# Altium integrated library Actel ProASIC PLUS.IntLib: 242 symbols (part 15 of 36)
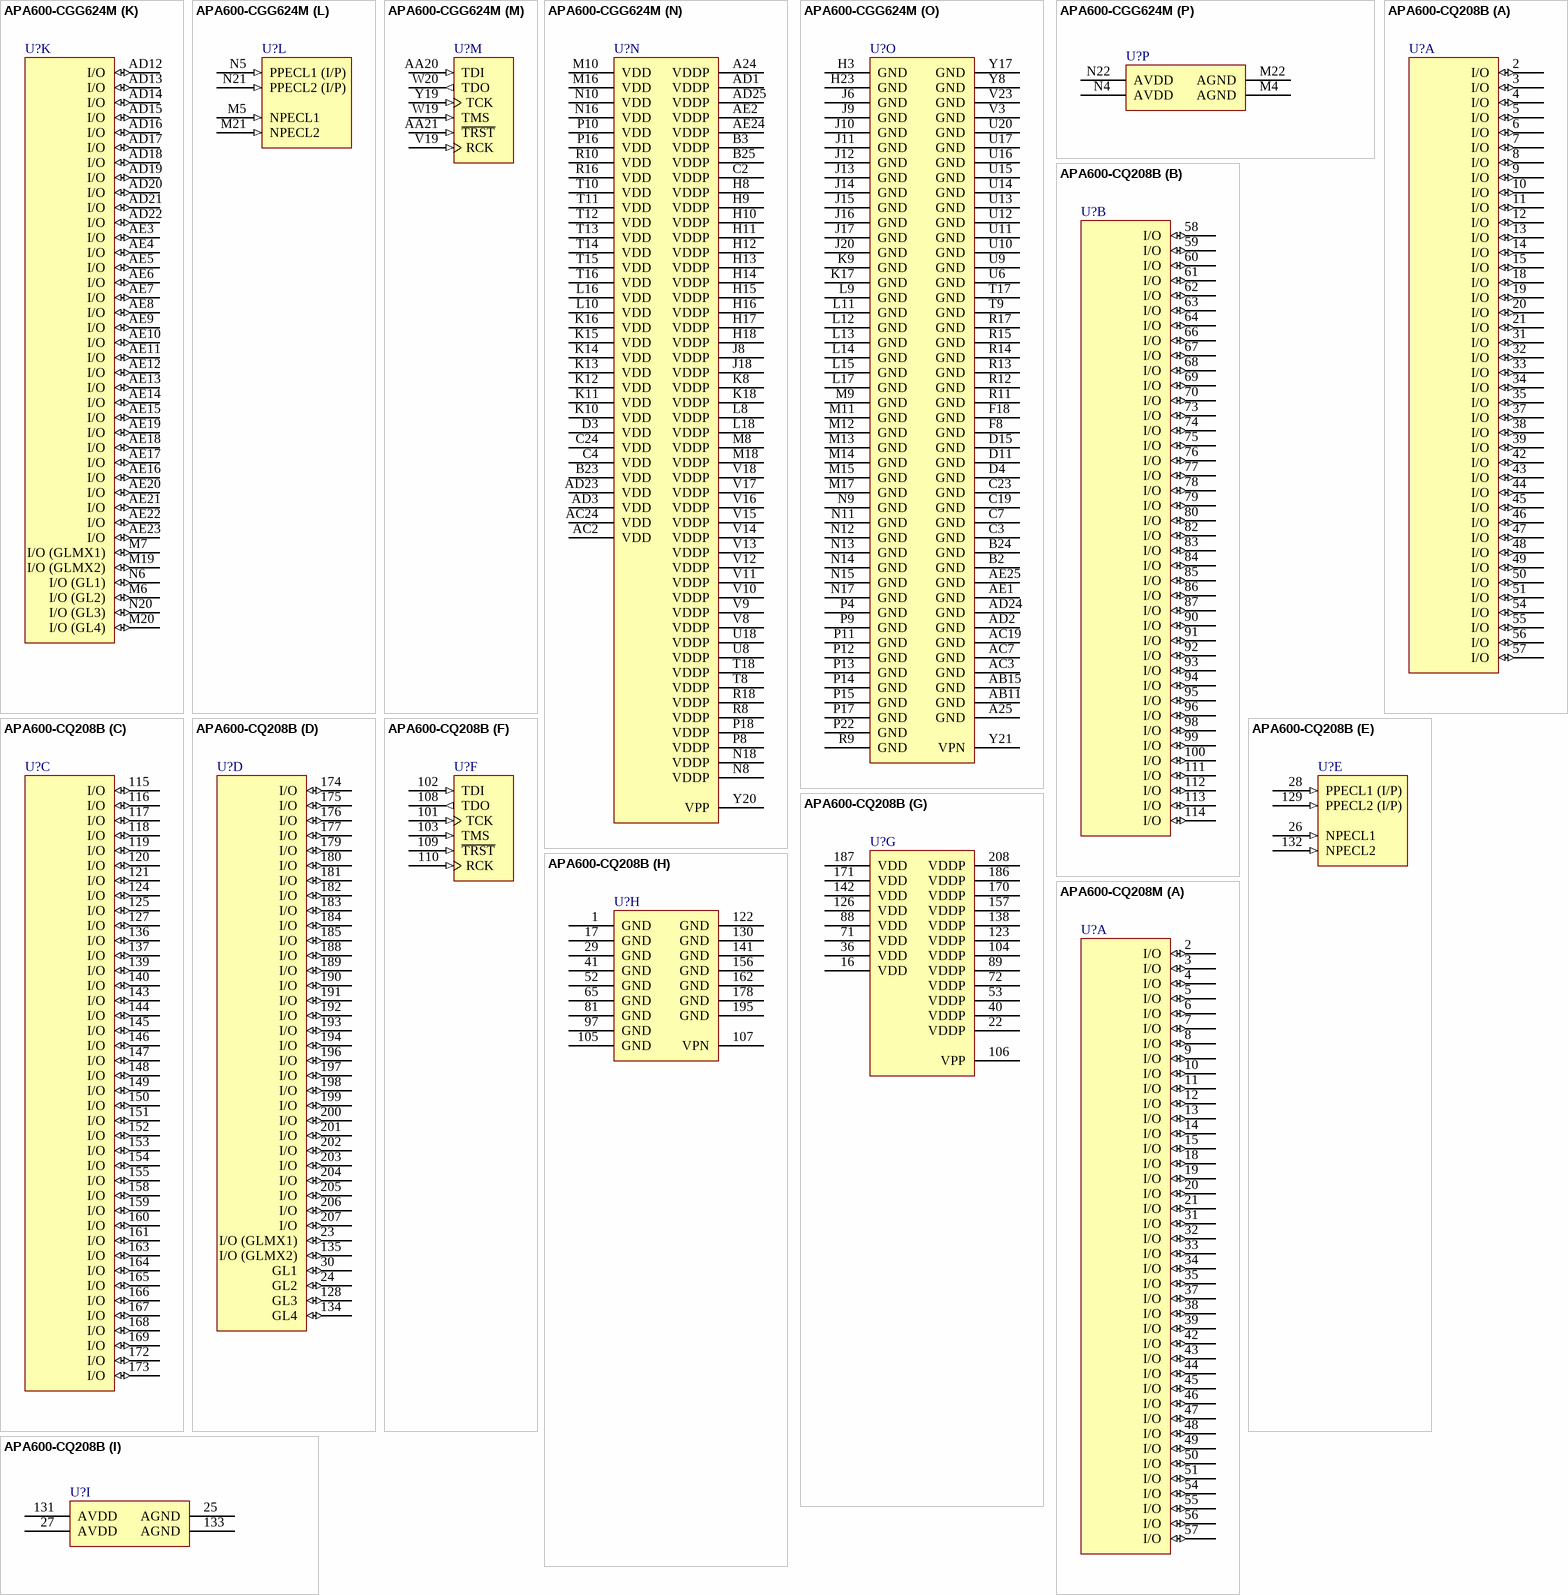
[diagram p211: symbols APA600-CGG624M to APA600-CQ208M]

## APA600-CGG624M
designator U?
ProASICPlus APA600 Flash FPGA, 440 User IOs, 624-Pin CCGA, Speed Grade Standard, Military Grade, Pb-Free; Published: 16-Dec-2005; LatestRevisionDate: 26-Feb-2010; LatestRevisionNote: Updated to datasheet version 5.9 Jan-2010.; DatasheetVersion: v5.9, Jan-2010; PackageVersion: ver11.2, Nov-2009; PackageReference: CG624; Publisher: Altium Limited; PackageDescription: 624-Pin Ceramic Column Grid Array 1.27 mm Pitch; Code_JEDEC: MO-158-BE-01; ComponentLink1Description: ProASIC PLUS Datasheet; ComponentLink1URL: http://www.actel.com/documents/ProASICPLUS_DS.pdf; ComponentLink2Description: Package Mechanical Drawings; ComponentLink2URL: http://www.actel.com/documents/PckgMechDrwngs.pdf; ComponentLink3Description: ProASIC PLUS Documents; ComponentLink3URL: http://www.actel.com/products/proasicplus/docs.aspx; ComponentLink4Description: Actel.com Home; ComponentLink4URL: http://www.actel.com/
footprint CG624 (CGA, 624-Leads, Body 32.5x32.5mm, Pitch 1.27mm)
part A pins: A2 I/O (io), A3 I/O (io), A4 I/O (io), A5 I/O (io), A6 I/O (io), A7 I/O (io), A8 I/O (io), A9 I/O (io), A10 I/O (io), A11 I/O (io), A12 I/O (io), A13 I/O (io), A14 I/O (io), A15 I/O (io), A16 I/O (io), A17 I/O (io), A18 I/O (io), A19 I/O (io), A20 I/O (io), A21 I/O (io), A22 I/O (io), A23 I/O (io), B1 I/O (io), B4 I/O (io), B5 I/O (io), B6 I/O (io), B7 I/O (io), B8 I/O (io), B9 I/O (io), B10 I/O (io), B11 I/O (io), B12 I/O (io), B13 I/O (io), B14 I/O (io), B15 I/O (io), B16 I/O (io), B17 I/O (io), B18 I/O (io), B19 I/O (io), B20 I/O (io)
part B pins: B21 I/O (io), B22 I/O (io), C1 I/O (io), C5 I/O (io), C6 I/O (io), C8 I/O (io), C9 I/O (io), C10 I/O (io), C11 I/O (io), C12 I/O (io), C13 I/O (io), C14 I/O (io), C15 I/O (io), C16 I/O (io), C17 I/O (io), C18 I/O (io), C20 I/O (io), C21 I/O (io), C22 I/O (io), C25 I/O (io), D1 I/O (io), D2 I/O (io), D5 I/O (io), D6 I/O (io), D7 I/O (io), D8 I/O (io), D9 I/O (io), D10 I/O (io), D12 I/O (io), D13 I/O (io), D14 I/O (io), D16 I/O (io), D17 I/O (io), D18 I/O (io), D19 I/O (io), D20 I/O (io), D21 I/O (io), D22 I/O (io), D23 I/O (io), D24 I/O (io)
part C pins: D25 I/O (io), E1 I/O (io), E2 I/O (io), E3 I/O (io), E4 I/O (io), E5 I/O (io), E6 I/O (io), E7 I/O (io), E8 I/O (io), E9 I/O (io), E10 I/O (io), E11 I/O (io), E12 I/O (io), E13 I/O (io), E14 I/O (io), E15 I/O (io), E16 I/O (io), E17 I/O (io), E18 I/O (io), E19 I/O (io), E20 I/O (io), E21 I/O (io), E22 I/O (io), E23 I/O (io), E24 I/O (io), E25 I/O (io), F1 I/O (io), F2 I/O (io), F3 I/O (io), F4 I/O (io), F5 I/O (io), F6 I/O (io), F7 I/O (io), F9 I/O (io), F10 I/O (io), F11 I/O (io), F12 I/O (io), F13 I/O (io), F14 I/O (io), F15 I/O (io)
part D pins: F16 I/O (io), F17 I/O (io), F19 I/O (io), F20 I/O (io), F21 I/O (io), F22 I/O (io), F23 I/O (io), F24 I/O (io), F25 I/O (io), G1 I/O (io), G2 I/O (io), G3 I/O (io), G4 I/O (io), G5 I/O (io), G6 I/O (io), G7 I/O (io), G8 I/O (io), G9 I/O (io), G10 I/O (io), G11 I/O (io), G12 I/O (io), G13 I/O (io), G14 I/O (io), G15 I/O (io), G16 I/O (io), G17 I/O (io), G18 I/O (io), G19 I/O (io), G20 I/O (io), G21 I/O (io), G22 I/O (io), G23 I/O (io), G24 I/O (io), G25 I/O (io), H1 I/O (io), H2 I/O (io), H4 I/O (io), H5 I/O (io), H6 I/O (io), H7 I/O (io)
part E pins: H19 I/O (io), H20 I/O (io), H21 I/O (io), H22 I/O (io), H24 I/O (io), H25 I/O (io), J1 I/O (io), J2 I/O (io), J3 I/O (io), J4 I/O (io), J5 I/O (io), J7 I/O (io), J19 I/O (io), J21 I/O (io), J22 I/O (io), J23 I/O (io), J24 I/O (io), J25 I/O (io), K1 I/O (io), K2 I/O (io), K3 I/O (io), K4 I/O (io), K5 I/O (io), K6 I/O (io), K7 I/O (io), K19 I/O (io), K20 I/O (io), K21 I/O (io), K22 I/O (io), K23 I/O (io), K24 I/O (io), K25 I/O (io), L1 I/O (io), L2 I/O (io), L3 I/O (io), L4 I/O (io), L5 I/O (io), L6 I/O (io), L7 I/O (io), L19 I/O (io)
part F pins: L20 I/O (io), L21 I/O (io), L22 I/O (io), L23 I/O (io), L24 I/O (io), L25 I/O (io), M1 I/O (io), M2 I/O (io), M3 I/O (io), M23 I/O (io), M24 I/O (io), M25 I/O (io), N1 I/O (io), N2 I/O (io), N3 I/O (io), N7 I/O (io), N19 I/O (io), N23 I/O (io), N24 I/O (io), N25 I/O (io), P1 I/O (io), P2 I/O (io), P3 I/O (io), P5 I/O (io), P6 I/O (io), P7 I/O (io), P19 I/O (io), P20 I/O (io), P21 I/O (io), P23 I/O (io), P24 I/O (io), P25 I/O (io), R1 I/O (io), R2 I/O (io), R3 I/O (io), R4 I/O (io), R5 I/O (io), R6 I/O (io), R7 I/O (io), R19 I/O (io)
part G pins: R20 I/O (io), R21 I/O (io), R22 I/O (io), R23 I/O (io), R24 I/O (io), R25 I/O (io), T1 I/O (io), T2 I/O (io), T3 I/O (io), T4 I/O (io), T5 I/O (io), T6 I/O (io), T7 I/O (io), T19 I/O (io), T20 I/O (io), T21 I/O (io), T22 I/O (io), T23 I/O (io), T24 I/O (io), T25 I/O (io), U1 I/O (io), U2 I/O (io), U3 I/O (io), U4 I/O (io), U5 I/O (io), U7 I/O (io), U19 I/O (io), U21 I/O (io), U22 I/O (io), U23 I/O (io), U24 I/O (io), U25 I/O (io), V1 I/O (io), V2 I/O (io), V4 I/O (io), V5 I/O (io), V6 I/O (io), V7 I/O (io), V20 I/O (io), V21 I/O (io)
part H pins: V22 I/O (io), V24 I/O (io), V25 I/O (io), W1 I/O (io), W2 I/O (io), W3 I/O (io), W4 I/O (io), W5 I/O (io), W6 I/O (io), W7 I/O (io), W8 I/O (io), W9 I/O (io), W10 I/O (io), W11 I/O (io), W12 I/O (io), W13 I/O (io), W14 I/O (io), W15 I/O (io), W16 I/O (io), W17 I/O (io), W18 I/O (io), W21 I/O (io), W22 I/O (io), W23 I/O (io), W24 I/O (io), W25 I/O (io), Y1 I/O (io), Y2 I/O (io), Y3 I/O (io), Y4 I/O (io), Y5 I/O (io), Y6 I/O (io), Y7 I/O (io), Y9 I/O (io), Y10 I/O (io), Y11 I/O (io), Y12 I/O (io), Y13 I/O (io), Y14 I/O (io), Y15 I/O (io)
part I pins: AA1 I/O (io), AA2 I/O (io), AA3 I/O (io), AA4 I/O (io), AA5 I/O (io), AA6 I/O (io), AA7 I/O (io), AA8 I/O (io), AA9 I/O (io), AA10 I/O (io), AA11 I/O (io), AA12 I/O (io), AA13 I/O (io), AA14 I/O (io), AA15 I/O (io), AA16 I/O (io), AA17 I/O (io), AA18 I/O (io), AA19 I/O (io), AA22 I/O (io), AA23 I/O (io), AA24 I/O (io), AA25 I/O (io), AB1 I/O (io), AB2 I/O (io), AB3 I/O (io), AB4 I/O (io), AB5 I/O (io), AB6 I/O (io), AB7 I/O (io), AB8 I/O (io), AB9 I/O (io), AB10 I/O (io), AB12 I/O (io), Y16 I/O (io), Y18 I/O (io), Y22 I/O (io), Y23 I/O (io), Y24 I/O (io), Y25 I/O (io)
part J pins: AB13 I/O (io), AB14 I/O (io), AB16 I/O (io), AB17 I/O (io), AB18 I/O (io), AB19 I/O (io), AB20 I/O (io), AB21 I/O (io), AB22 I/O (io), AB23 I/O (io), AB24 I/O (io), AB25 I/O (io), AC1 I/O (io), AC4 I/O (io), AC5 I/O (io), AC6 I/O (io), AC8 I/O (io), AC9 I/O (io), AC10 I/O (io), AC11 I/O (io), AC12 I/O (io), AC13 I/O (io), AC14 I/O (io), AC15 I/O (io), AC16 I/O (io), AC17 I/O (io), AC18 I/O (io), AC20 I/O (io), AC21 I/O (io), AC22 I/O (io), AC23 I/O (io), AC25 I/O (io), AD4 I/O (io), AD5 I/O (io), AD6 I/O (io), AD7 I/O (io), AD8 I/O (io), AD9 I/O (io), AD10 I/O (io), AD11 I/O (io)
part K pins: AD12 I/O (io), AD13 I/O (io), AD14 I/O (io), AD15 I/O (io), AD16 I/O (io), AD17 I/O (io), AD18 I/O (io), AD19 I/O (io), AD20 I/O (io), AD21 I/O (io), AD22 I/O (io), AE3 I/O (io), AE4 I/O (io), AE5 I/O (io), AE6 I/O (io), AE7 I/O (io), AE8 I/O (io), AE9 I/O (io), AE10 I/O (io), AE11 I/O (io), AE12 I/O (io), AE13 I/O (io), AE14 I/O (io), AE15 I/O (io), AE16 I/O (io), AE17 I/O (io), AE18 I/O (io), AE19 I/O (io), AE20 I/O (io), AE21 I/O (io), AE22 I/O (io), AE23 I/O (io), M6 I/O (GL2) (io), M7 I/O (GLMX1) (io), M19 I/O (GLMX2) (io), M20 I/O (GL4) (io), N6 I/O (GL1) (io), N20 I/O (GL3) (io)
part L pins: M5 NPECL1 (in), M21 NPECL2 (in), N5 PPECL1 (I/P) (in), N21 PPECL2 (I/P) (in)
part M pins: AA20 TDI (in), AA21 ~{TRST} (in), V19 RCK (in), W19 TMS (in), W20 TDO (out), Y19 TCK (in)
part N pins: A24 VDDP (power), AC2 VDD (power), AC24 VDD (power), AD1 VDDP (power), AD3 VDD (power), AD23 VDD (power), AD25 VDDP (power), AE2 VDDP (power), AE24 VDDP (power), B3 VDDP (power), B23 VDD (power), B25 VDDP (power), C2 VDDP (power), C4 VDD (power), C24 VDD (power), D3 VDD (power), H8 VDDP (power), H9 VDDP (power), H10 VDDP (power), H11 VDDP (power), H12 VDDP (power), H13 VDDP (power), H14 VDDP (power), H15 VDDP (power), H16 VDDP (power), H17 VDDP (power), H18 VDDP (power), J8 VDDP (power), J18 VDDP (power), K8 VDDP (power), K10 VDD (power), K11 VDD (power), K12 VDD (power), K13 VDD (power), K14 VDD (power), K15 VDD (power), K16 VDD (power), K18 VDDP (power), L8 VDDP (power), L10 VDD (power), L16 VDD (power), L18 VDDP (power), M8 VDDP (power), M10 VDD (power), M16 VDD (power), M18 VDDP (power), N8 VDDP (power), N10 VDD (power), N16 VDD (power), N18 VDDP (power), P8 VDDP (power), P10 VDD (power), P16 VDD (power), P18 VDDP (power), R8 VDDP (power), R10 VDD (power), R16 VDD (power), R18 VDDP (power), T8 VDDP (power), T10 VDD (power), T11 VDD (power), T12 VDD (power), T13 VDD (power), T14 VDD (power), T15 VDD (power), T16 VDD (power), T18 VDDP (power), U8 VDDP (power), U18 VDDP (power), V8 VDDP (power), V9 VDDP (power), V10 VDDP (power), V11 VDDP (power), V12 VDDP (power), V13 VDDP (power), V14 VDDP (power), V15 VDDP (power), V16 VDDP (power), V17 VDDP (power), V18 VDDP (power), Y20 VPP (power)
part O pins: A25 GND (power), AB11 GND (power), AB15 GND (power), AC3 GND (power), AC7 GND (power), AC19 GND (power), AD2 GND (power), AD24 GND (power), AE1 GND (power), AE25 GND (power), B2 GND (power), B24 GND (power), C3 GND (power), C7 GND (power), C19 GND (power), C23 GND (power), D4 GND (power), D11 GND (power), D15 GND (power), F8 GND (power), F18 GND (power), H3 GND (power), H23 GND (power), J6 GND (power), J9 GND (power), J10 GND (power), J11 GND (power), J12 GND (power), J13 GND (power), J14 GND (power), J15 GND (power), J16 GND (power), J17 GND (power), J20 GND (power), K9 GND (power), K17 GND (power), L9 GND (power), L11 GND (power), L12 GND (power), L13 GND (power), L14 GND (power), L15 GND (power), L17 GND (power), M9 GND (power), M11 GND (power), M12 GND (power), M13 GND (power), M14 GND (power), M15 GND (power), M17 GND (power), N9 GND (power), N11 GND (power), N12 GND (power), N13 GND (power), N14 GND (power), N15 GND (power), N17 GND (power), P4 GND (power), P9 GND (power), P11 GND (power), P12 GND (power), P13 GND (power), P14 GND (power), P15 GND (power), P17 GND (power), P22 GND (power), R9 GND (power), R11 GND (power), R12 GND (power), R13 GND (power), R14 GND (power), R15 GND (power), R17 GND (power), T9 GND (power), T17 GND (power), U6 GND (power), U9 GND (power), U10 GND (power), U11 GND (power), U12 GND (power), U13 GND (power), U14 GND (power), U15 GND (power), U16 GND (power), U17 GND (power), U20 GND (power), V3 GND (power), V23 GND (power), Y8 GND (power), Y17 GND (power), Y21 VPN (power)
part P pins: M4 AGND (power), M22 AGND (power), N4 AVDD (power), N22 AVDD (power)

## APA600-CQ208B
designator U?
ProASICPlus APA600 Flash FPGA, 158 User IOs, 208-Pin CQFP, Speed Grade Standard, Mil-Std 883 Class B; Published: 2-Mar-2006; LatestRevisionDate: 26-Feb-2010; LatestRevisionNote: Updated to datasheet version 5.9 Jan-2010.; DatasheetVersion: v5.9, Jan-2010; PackageVersion: ver11.2, Nov-2009; PackageReference: CQ208; Publisher: Altium Limited; PackageDescription: 208-Pin Ceramic Quad Flat Pack (CQFP); ComponentLink1Description: ProASIC PLUS Datasheet; ComponentLink1URL: http://www.actel.com/documents/ProASICPLUS_DS.pdf; ComponentLink2Description: Package Mechanical Drawings; ComponentLink2URL: http://www.actel.com/documents/PckgMechDrwngs.pdf; ComponentLink3Description: ProASIC PLUS Documents; ComponentLink3URL: http://www.actel.com/products/proasicplus/docs.aspx; ComponentLink4Description: Actel.com Home; ComponentLink4URL: http://www.actel.com/
footprint CQ208_N (CQFP, 208-Leads, Body 29x29mm; Pitch 0.5mm, Gullwing Leadform, IPC Medium Density)
footprint CQ208_L (CQFP, 208-Leads, Body 29x29mm; Pitch 0.5mm, Gullwing Leadform, IPC High Density)
footprint CQ208_M (CQFP, 208-Leads, Body 29x29mm; Pitch 0.5mm, Gullwing Leadform, IPC Low Density)
part A pins: 2 I/O (io), 3 I/O (io), 4 I/O (io), 5 I/O (io), 6 I/O (io), 7 I/O (io), 8 I/O (io), 9 I/O (io), 10 I/O (io), 11 I/O (io), 12 I/O (io), 13 I/O (io), 14 I/O (io), 15 I/O (io), 18 I/O (io), 19 I/O (io), 20 I/O (io), 21 I/O (io), 31 I/O (io), 32 I/O (io), 33 I/O (io), 34 I/O (io), 35 I/O (io), 37 I/O (io), 38 I/O (io), 39 I/O (io), 42 I/O (io), 43 I/O (io), 44 I/O (io), 45 I/O (io), 46 I/O (io), 47 I/O (io), 48 I/O (io), 49 I/O (io), 50 I/O (io), 51 I/O (io), 54 I/O (io), 55 I/O (io), 56 I/O (io), 57 I/O (io)
part B pins: 58 I/O (io), 59 I/O (io), 60 I/O (io), 61 I/O (io), 62 I/O (io), 63 I/O (io), 64 I/O (io), 66 I/O (io), 67 I/O (io), 68 I/O (io), 69 I/O (io), 70 I/O (io), 73 I/O (io), 74 I/O (io), 75 I/O (io), 76 I/O (io), 77 I/O (io), 78 I/O (io), 79 I/O (io), 80 I/O (io), 82 I/O (io), 83 I/O (io), 84 I/O (io), 85 I/O (io), 86 I/O (io), 87 I/O (io), 90 I/O (io), 91 I/O (io), 92 I/O (io), 93 I/O (io), 94 I/O (io), 95 I/O (io), 96 I/O (io), 98 I/O (io), 99 I/O (io), 100 I/O (io), 111 I/O (io), 112 I/O (io), 113 I/O (io), 114 I/O (io)
part C pins: 115 I/O (io), 116 I/O (io), 117 I/O (io), 118 I/O (io), 119 I/O (io), 120 I/O (io), 121 I/O (io), 124 I/O (io), 125 I/O (io), 127 I/O (io), 136 I/O (io), 137 I/O (io), 139 I/O (io), 140 I/O (io), 143 I/O (io), 144 I/O (io), 145 I/O (io), 146 I/O (io), 147 I/O (io), 148 I/O (io), 149 I/O (io), 150 I/O (io), 151 I/O (io), 152 I/O (io), 153 I/O (io), 154 I/O (io), 155 I/O (io), 158 I/O (io), 159 I/O (io), 160 I/O (io), 161 I/O (io), 163 I/O (io), 164 I/O (io), 165 I/O (io), 166 I/O (io), 167 I/O (io), 168 I/O (io), 169 I/O (io), 172 I/O (io), 173 I/O (io)
part D pins: 23 I/O (GLMX1) (io), 24 GL2 (io), 30 GL1 (io), 128 GL3 (io), 134 GL4 (io), 135 I/O (GLMX2) (io), 174 I/O (io), 175 I/O (io), 176 I/O (io), 177 I/O (io), 179 I/O (io), 180 I/O (io), 181 I/O (io), 182 I/O (io), 183 I/O (io), 184 I/O (io), 185 I/O (io), 188 I/O (io), 189 I/O (io), 190 I/O (io), 191 I/O (io), 192 I/O (io), 193 I/O (io), 194 I/O (io), 196 I/O (io), 197 I/O (io), 198 I/O (io), 199 I/O (io), 200 I/O (io), 201 I/O (io), 202 I/O (io), 203 I/O (io), 204 I/O (io), 205 I/O (io), 206 I/O (io), 207 I/O (io)
part E pins: 26 NPECL1 (in), 28 PPECL1 (I/P) (in), 129 PPECL2 (I/P) (in), 132 NPECL2 (in)
part F pins: 101 TCK (in), 102 TDI (in), 103 TMS (in), 108 TDO (out), 109 ~{TRST} (in), 110 RCK (in)
part G pins: 16 VDD (power), 22 VDDP (power), 36 VDD (power), 40 VDDP (power), 53 VDDP (power), 71 VDD (power), 72 VDDP (power), 88 VDD (power), 89 VDDP (power), 104 VDDP (power), 106 VPP (power), 123 VDDP (power), 126 VDD (power), 138 VDDP (power), 142 VDD (power), 157 VDDP (power), 170 VDDP (power), 171 VDD (power), 186 VDDP (power), 187 VDD (power), 208 VDDP (power)
part H pins: 1 GND (power), 17 GND (power), 29 GND (power), 41 GND (power), 52 GND (power), 65 GND (power), 81 GND (power), 97 GND (power), 105 GND (power), 107 VPN (power), 122 GND (power), 130 GND (power), 141 GND (power), 156 GND (power), 162 GND (power), 178 GND (power), 195 GND (power)
part I pins: 25 AGND (power), 27 AVDD (power), 131 AVDD (power), 133 AGND (power)

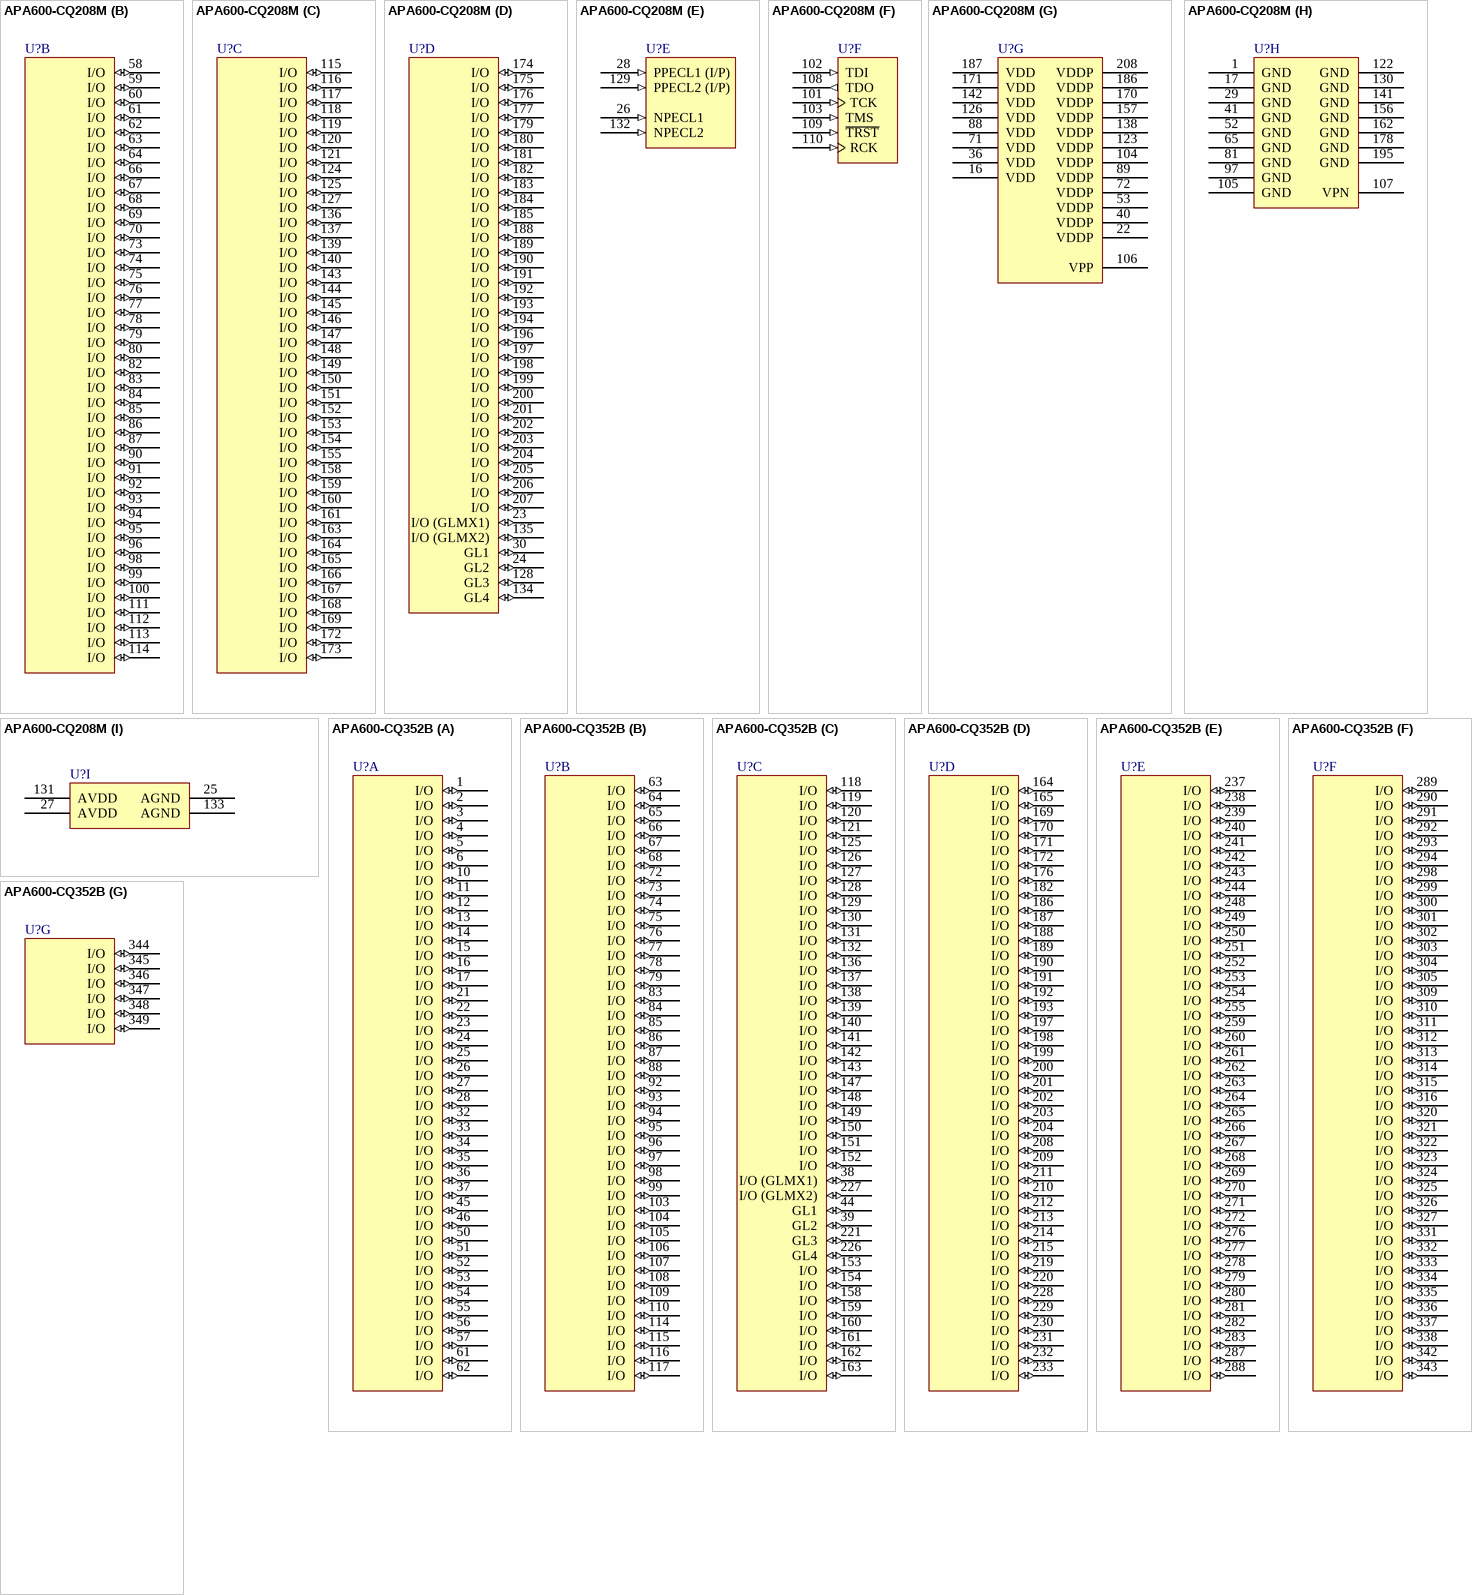
[diagram p89: symbols APA600-CQ208M to APA600-CQ352B]

## APA600-CQ208M
designator U?
ProASICPlus APA600 Flash FPGA, 158 User IOs, 208-Pin CQFP, Speed Grade Standard, Military Grade; Published: 11-Oct-2004; LatestRevisionDate: 26-Feb-2010; LatestRevisionNote: Updated to datasheet version 5.9 Jan-2010.; DatasheetVersion: v5.9, Jan-2010; PackageVersion: ver11.2, Nov-2009; PackageReference: CQ208; Publisher: Altium Limited; PackageDescription: 208-Pin Ceramic Quad Flat Pack (CQFP); ComponentLink1Description: ProASIC PLUS Datasheet; ComponentLink1URL: http://www.actel.com/documents/ProASICPLUS_DS.pdf; ComponentLink2Description: Package Mechanical Drawings; ComponentLink2URL: http://www.actel.com/documents/PckgMechDrwngs.pdf; ComponentLink3Description: ProASIC PLUS Documents; ComponentLink3URL: http://www.actel.com/products/proasicplus/docs.aspx; ComponentLink4Description: Actel.com Home; ComponentLink4URL: http://www.actel.com/
footprint CQ208_N (CQFP, 208-Leads, Body 29x29mm; Pitch 0.5mm, Gullwing Leadform, IPC Medium Density)
footprint CQ208_L (CQFP, 208-Leads, Body 29x29mm; Pitch 0.5mm, Gullwing Leadform, IPC High Density)
footprint CQ208_M (CQFP, 208-Leads, Body 29x29mm; Pitch 0.5mm, Gullwing Leadform, IPC Low Density)
part A pins: 2 I/O (io), 3 I/O (io), 4 I/O (io), 5 I/O (io), 6 I/O (io), 7 I/O (io), 8 I/O (io), 9 I/O (io), 10 I/O (io), 11 I/O (io), 12 I/O (io), 13 I/O (io), 14 I/O (io), 15 I/O (io), 18 I/O (io), 19 I/O (io), 20 I/O (io), 21 I/O (io), 31 I/O (io), 32 I/O (io), 33 I/O (io), 34 I/O (io), 35 I/O (io), 37 I/O (io), 38 I/O (io), 39 I/O (io), 42 I/O (io), 43 I/O (io), 44 I/O (io), 45 I/O (io), 46 I/O (io), 47 I/O (io), 48 I/O (io), 49 I/O (io), 50 I/O (io), 51 I/O (io), 54 I/O (io), 55 I/O (io), 56 I/O (io), 57 I/O (io)
part B pins: 58 I/O (io), 59 I/O (io), 60 I/O (io), 61 I/O (io), 62 I/O (io), 63 I/O (io), 64 I/O (io), 66 I/O (io), 67 I/O (io), 68 I/O (io), 69 I/O (io), 70 I/O (io), 73 I/O (io), 74 I/O (io), 75 I/O (io), 76 I/O (io), 77 I/O (io), 78 I/O (io), 79 I/O (io), 80 I/O (io), 82 I/O (io), 83 I/O (io), 84 I/O (io), 85 I/O (io), 86 I/O (io), 87 I/O (io), 90 I/O (io), 91 I/O (io), 92 I/O (io), 93 I/O (io), 94 I/O (io), 95 I/O (io), 96 I/O (io), 98 I/O (io), 99 I/O (io), 100 I/O (io), 111 I/O (io), 112 I/O (io), 113 I/O (io), 114 I/O (io)
part C pins: 115 I/O (io), 116 I/O (io), 117 I/O (io), 118 I/O (io), 119 I/O (io), 120 I/O (io), 121 I/O (io), 124 I/O (io), 125 I/O (io), 127 I/O (io), 136 I/O (io), 137 I/O (io), 139 I/O (io), 140 I/O (io), 143 I/O (io), 144 I/O (io), 145 I/O (io), 146 I/O (io), 147 I/O (io), 148 I/O (io), 149 I/O (io), 150 I/O (io), 151 I/O (io), 152 I/O (io), 153 I/O (io), 154 I/O (io), 155 I/O (io), 158 I/O (io), 159 I/O (io), 160 I/O (io), 161 I/O (io), 163 I/O (io), 164 I/O (io), 165 I/O (io), 166 I/O (io), 167 I/O (io), 168 I/O (io), 169 I/O (io), 172 I/O (io), 173 I/O (io)
part D pins: 23 I/O (GLMX1) (io), 24 GL2 (io), 30 GL1 (io), 128 GL3 (io), 134 GL4 (io), 135 I/O (GLMX2) (io), 174 I/O (io), 175 I/O (io), 176 I/O (io), 177 I/O (io), 179 I/O (io), 180 I/O (io), 181 I/O (io), 182 I/O (io), 183 I/O (io), 184 I/O (io), 185 I/O (io), 188 I/O (io), 189 I/O (io), 190 I/O (io), 191 I/O (io), 192 I/O (io), 193 I/O (io), 194 I/O (io), 196 I/O (io), 197 I/O (io), 198 I/O (io), 199 I/O (io), 200 I/O (io), 201 I/O (io), 202 I/O (io), 203 I/O (io), 204 I/O (io), 205 I/O (io), 206 I/O (io), 207 I/O (io)
part E pins: 26 NPECL1 (in), 28 PPECL1 (I/P) (in), 129 PPECL2 (I/P) (in), 132 NPECL2 (in)
part F pins: 101 TCK (in), 102 TDI (in), 103 TMS (in), 108 TDO (out), 109 ~{TRST} (in), 110 RCK (in)
part G pins: 16 VDD (power), 22 VDDP (power), 36 VDD (power), 40 VDDP (power), 53 VDDP (power), 71 VDD (power), 72 VDDP (power), 88 VDD (power), 89 VDDP (power), 104 VDDP (power), 106 VPP (power), 123 VDDP (power), 126 VDD (power), 138 VDDP (power), 142 VDD (power), 157 VDDP (power), 170 VDDP (power), 171 VDD (power), 186 VDDP (power), 187 VDD (power), 208 VDDP (power)
part H pins: 1 GND (power), 17 GND (power), 29 GND (power), 41 GND (power), 52 GND (power), 65 GND (power), 81 GND (power), 97 GND (power), 105 GND (power), 107 VPN (power), 122 GND (power), 130 GND (power), 141 GND (power), 156 GND (power), 162 GND (power), 178 GND (power), 195 GND (power)
part I pins: 25 AGND (power), 27 AVDD (power), 131 AVDD (power), 133 AGND (power)

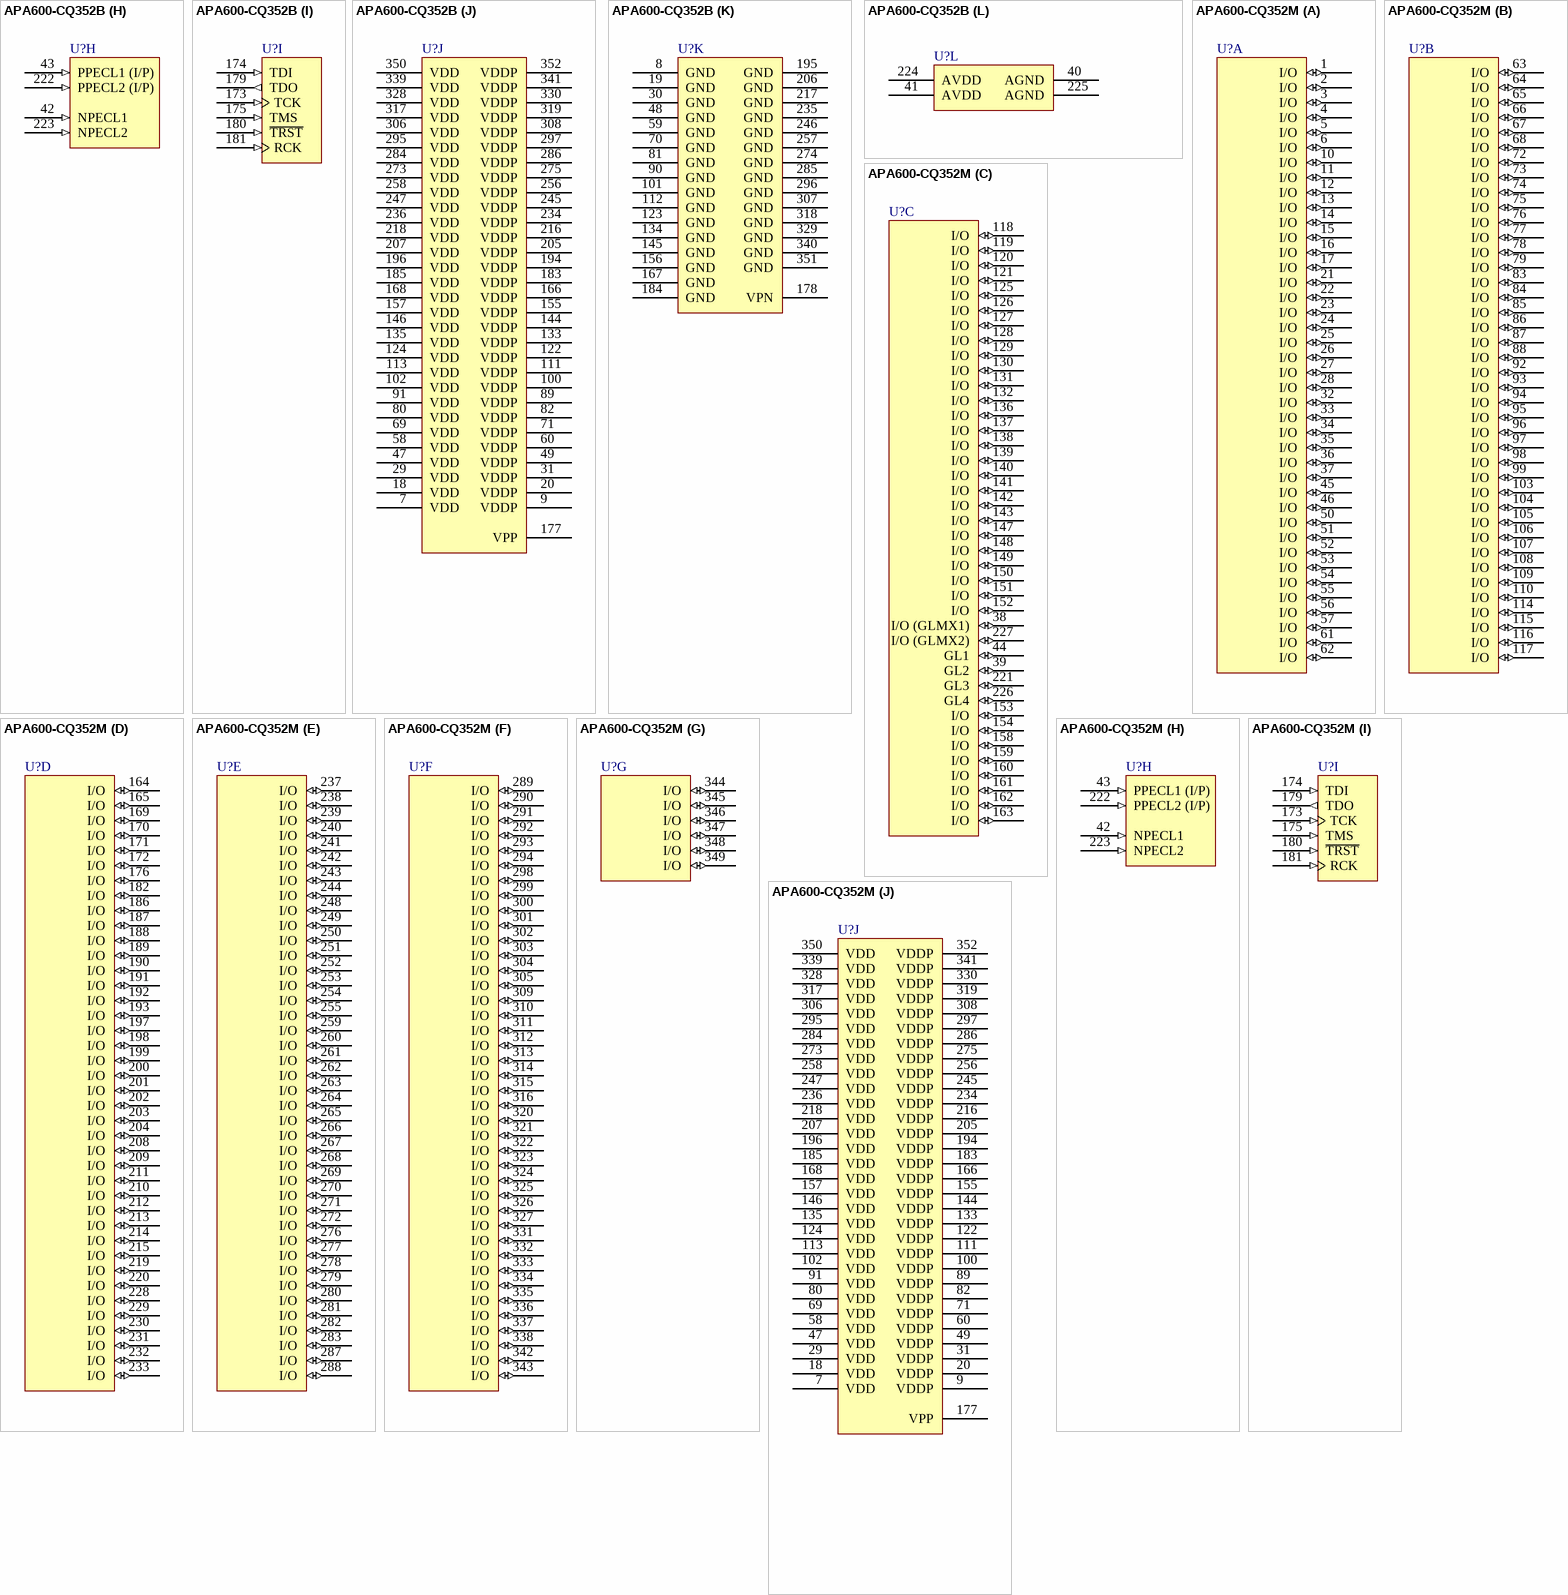
[diagram p90: symbols APA600-CQ352B to APA600-CQ352M]

## APA600-CQ352B
designator U?
ProASICPlus APA600 Flash FPGA, 248 User IOs, 352-Pin CQFP, Speed Grade Standard, Mil-Std 883 Class B; Published: 2-Mar-2006; LatestRevisionDate: 26-Feb-2010; LatestRevisionNote: Updated to datasheet version 5.9 Jan-2010.; DatasheetVersion: v5.9, Jan-2010; PackageVersion: ver11.2, Nov-2009; PackageReference: CQ352; Publisher: Altium Limited; PackageDescription: 352-Pin Ceramic Quad Flat Pack (CQFP), Cavity Up without Heat Sink; Code_JEDEC: MO-134-AE; ComponentLink1Description: ProASIC PLUS Datasheet; ComponentLink1URL: http://www.actel.com/documents/ProASICPLUS_DS.pdf; ComponentLink2Description: Package Mechanical Drawings; ComponentLink2URL: http://www.actel.com/documents/PckgMechDrwngs.pdf; ComponentLink3Description: ProASIC PLUS Documents; ComponentLink3URL: http://www.actel.com/products/proasicplus/docs.aspx; ComponentLink4Description: Actel.com Home; ComponentLink4URL: http://www.actel.com/
footprint CQ352_N (CQFP, 352-Leads, Body 48x48mm; Pitch 0.5mm, Gullwing Leadform, IPC Medium Density)
footprint CQ352_L (CQFP, 352-Leads, Body 48x48mm; Pitch 0.5mm, Gullwing Leadform, IPC High Density)
footprint CQ352_M (CQFP, 352-Leads, Body 48x48mm; Pitch 0.5mm, Gullwing Leadform, IPC Low Density)
part A pins: 1 I/O (io), 2 I/O (io), 3 I/O (io), 4 I/O (io), 5 I/O (io), 6 I/O (io), 10 I/O (io), 11 I/O (io), 12 I/O (io), 13 I/O (io), 14 I/O (io), 15 I/O (io), 16 I/O (io), 17 I/O (io), 21 I/O (io), 22 I/O (io), 23 I/O (io), 24 I/O (io), 25 I/O (io), 26 I/O (io), 27 I/O (io), 28 I/O (io), 32 I/O (io), 33 I/O (io), 34 I/O (io), 35 I/O (io), 36 I/O (io), 37 I/O (io), 45 I/O (io), 46 I/O (io), 50 I/O (io), 51 I/O (io), 52 I/O (io), 53 I/O (io), 54 I/O (io), 55 I/O (io), 56 I/O (io), 57 I/O (io), 61 I/O (io), 62 I/O (io)
part B pins: 63 I/O (io), 64 I/O (io), 65 I/O (io), 66 I/O (io), 67 I/O (io), 68 I/O (io), 72 I/O (io), 73 I/O (io), 74 I/O (io), 75 I/O (io), 76 I/O (io), 77 I/O (io), 78 I/O (io), 79 I/O (io), 83 I/O (io), 84 I/O (io), 85 I/O (io), 86 I/O (io), 87 I/O (io), 88 I/O (io), 92 I/O (io), 93 I/O (io), 94 I/O (io), 95 I/O (io), 96 I/O (io), 97 I/O (io), 98 I/O (io), 99 I/O (io), 103 I/O (io), 104 I/O (io), 105 I/O (io), 106 I/O (io), 107 I/O (io), 108 I/O (io), 109 I/O (io), 110 I/O (io), 114 I/O (io), 115 I/O (io), 116 I/O (io), 117 I/O (io)
part C pins: 38 I/O (GLMX1) (io), 39 GL2 (io), 44 GL1 (io), 118 I/O (io), 119 I/O (io), 120 I/O (io), 121 I/O (io), 125 I/O (io), 126 I/O (io), 127 I/O (io), 128 I/O (io), 129 I/O (io), 130 I/O (io), 131 I/O (io), 132 I/O (io), 136 I/O (io), 137 I/O (io), 138 I/O (io), 139 I/O (io), 140 I/O (io), 141 I/O (io), 142 I/O (io), 143 I/O (io), 147 I/O (io), 148 I/O (io), 149 I/O (io), 150 I/O (io), 151 I/O (io), 152 I/O (io), 153 I/O (io), 154 I/O (io), 158 I/O (io), 159 I/O (io), 160 I/O (io), 161 I/O (io), 162 I/O (io), 163 I/O (io), 221 GL3 (io), 226 GL4 (io), 227 I/O (GLMX2) (io)
part D pins: 164 I/O (io), 165 I/O (io), 169 I/O (io), 170 I/O (io), 171 I/O (io), 172 I/O (io), 176 I/O (io), 182 I/O (io), 186 I/O (io), 187 I/O (io), 188 I/O (io), 189 I/O (io), 190 I/O (io), 191 I/O (io), 192 I/O (io), 193 I/O (io), 197 I/O (io), 198 I/O (io), 199 I/O (io), 200 I/O (io), 201 I/O (io), 202 I/O (io), 203 I/O (io), 204 I/O (io), 208 I/O (io), 209 I/O (io), 210 I/O (io), 211 I/O (io), 212 I/O (io), 213 I/O (io), 214 I/O (io), 215 I/O (io), 219 I/O (io), 220 I/O (io), 228 I/O (io), 229 I/O (io), 230 I/O (io), 231 I/O (io), 232 I/O (io), 233 I/O (io)
part E pins: 237 I/O (io), 238 I/O (io), 239 I/O (io), 240 I/O (io), 241 I/O (io), 242 I/O (io), 243 I/O (io), 244 I/O (io), 248 I/O (io), 249 I/O (io), 250 I/O (io), 251 I/O (io), 252 I/O (io), 253 I/O (io), 254 I/O (io), 255 I/O (io), 259 I/O (io), 260 I/O (io), 261 I/O (io), 262 I/O (io), 263 I/O (io), 264 I/O (io), 265 I/O (io), 266 I/O (io), 267 I/O (io), 268 I/O (io), 269 I/O (io), 270 I/O (io), 271 I/O (io), 272 I/O (io), 276 I/O (io), 277 I/O (io), 278 I/O (io), 279 I/O (io), 280 I/O (io), 281 I/O (io), 282 I/O (io), 283 I/O (io), 287 I/O (io), 288 I/O (io)
part F pins: 289 I/O (io), 290 I/O (io), 291 I/O (io), 292 I/O (io), 293 I/O (io), 294 I/O (io), 298 I/O (io), 299 I/O (io), 300 I/O (io), 301 I/O (io), 302 I/O (io), 303 I/O (io), 304 I/O (io), 305 I/O (io), 309 I/O (io), 310 I/O (io), 311 I/O (io), 312 I/O (io), 313 I/O (io), 314 I/O (io), 315 I/O (io), 316 I/O (io), 320 I/O (io), 321 I/O (io), 322 I/O (io), 323 I/O (io), 324 I/O (io), 325 I/O (io), 326 I/O (io), 327 I/O (io), 331 I/O (io), 332 I/O (io), 333 I/O (io), 334 I/O (io), 335 I/O (io), 336 I/O (io), 337 I/O (io), 338 I/O (io), 342 I/O (io), 343 I/O (io)
part G pins: 344 I/O (io), 345 I/O (io), 346 I/O (io), 347 I/O (io), 348 I/O (io), 349 I/O (io)
part H pins: 42 NPECL1 (in), 43 PPECL1 (I/P) (in), 222 PPECL2 (I/P) (in), 223 NPECL2 (in)
part I pins: 173 TCK (in), 174 TDI (in), 175 TMS (in), 179 TDO (out), 180 ~{TRST} (in), 181 RCK (in)
part J pins: 7 VDD (power), 9 VDDP (power), 18 VDD (power), 20 VDDP (power), 29 VDD (power), 31 VDDP (power), 47 VDD (power), 49 VDDP (power), 58 VDD (power), 60 VDDP (power), 69 VDD (power), 71 VDDP (power), 80 VDD (power), 82 VDDP (power), 89 VDDP (power), 91 VDD (power), 100 VDDP (power), 102 VDD (power), 111 VDDP (power), 113 VDD (power), 122 VDDP (power), 124 VDD (power), 133 VDDP (power), 135 VDD (power), 144 VDDP (power), 146 VDD (power), 155 VDDP (power), 157 VDD (power), 166 VDDP (power), 168 VDD (power), 177 VPP (power), 183 VDDP (power), 185 VDD (power), 194 VDDP (power), 196 VDD (power), 205 VDDP (power), 207 VDD (power), 216 VDDP (power), 218 VDD (power), 234 VDDP (power), 236 VDD (power), 245 VDDP (power), 247 VDD (power), 256 VDDP (power), 258 VDD (power), 273 VDD (power), 275 VDDP (power), 284 VDD (power), 286 VDDP (power), 295 VDD (power), 297 VDDP (power), 306 VDD (power), 308 VDDP (power), 317 VDD (power), 319 VDDP (power), 328 VDD (power), 330 VDDP (power), 339 VDD (power), 341 VDDP (power), 350 VDD (power), 352 VDDP (power)
part K pins: 8 GND (power), 19 GND (power), 30 GND (power), 48 GND (power), 59 GND (power), 70 GND (power), 81 GND (power), 90 GND (power), 101 GND (power), 112 GND (power), 123 GND (power), 134 GND (power), 145 GND (power), 156 GND (power), 167 GND (power), 178 VPN (power), 184 GND (power), 195 GND (power), 206 GND (power), 217 GND (power), 235 GND (power), 246 GND (power), 257 GND (power), 274 GND (power), 285 GND (power), 296 GND (power), 307 GND (power), 318 GND (power), 329 GND (power), 340 GND (power), 351 GND (power)
part L pins: 40 AGND (power), 41 AVDD (power), 224 AVDD (power), 225 AGND (power)

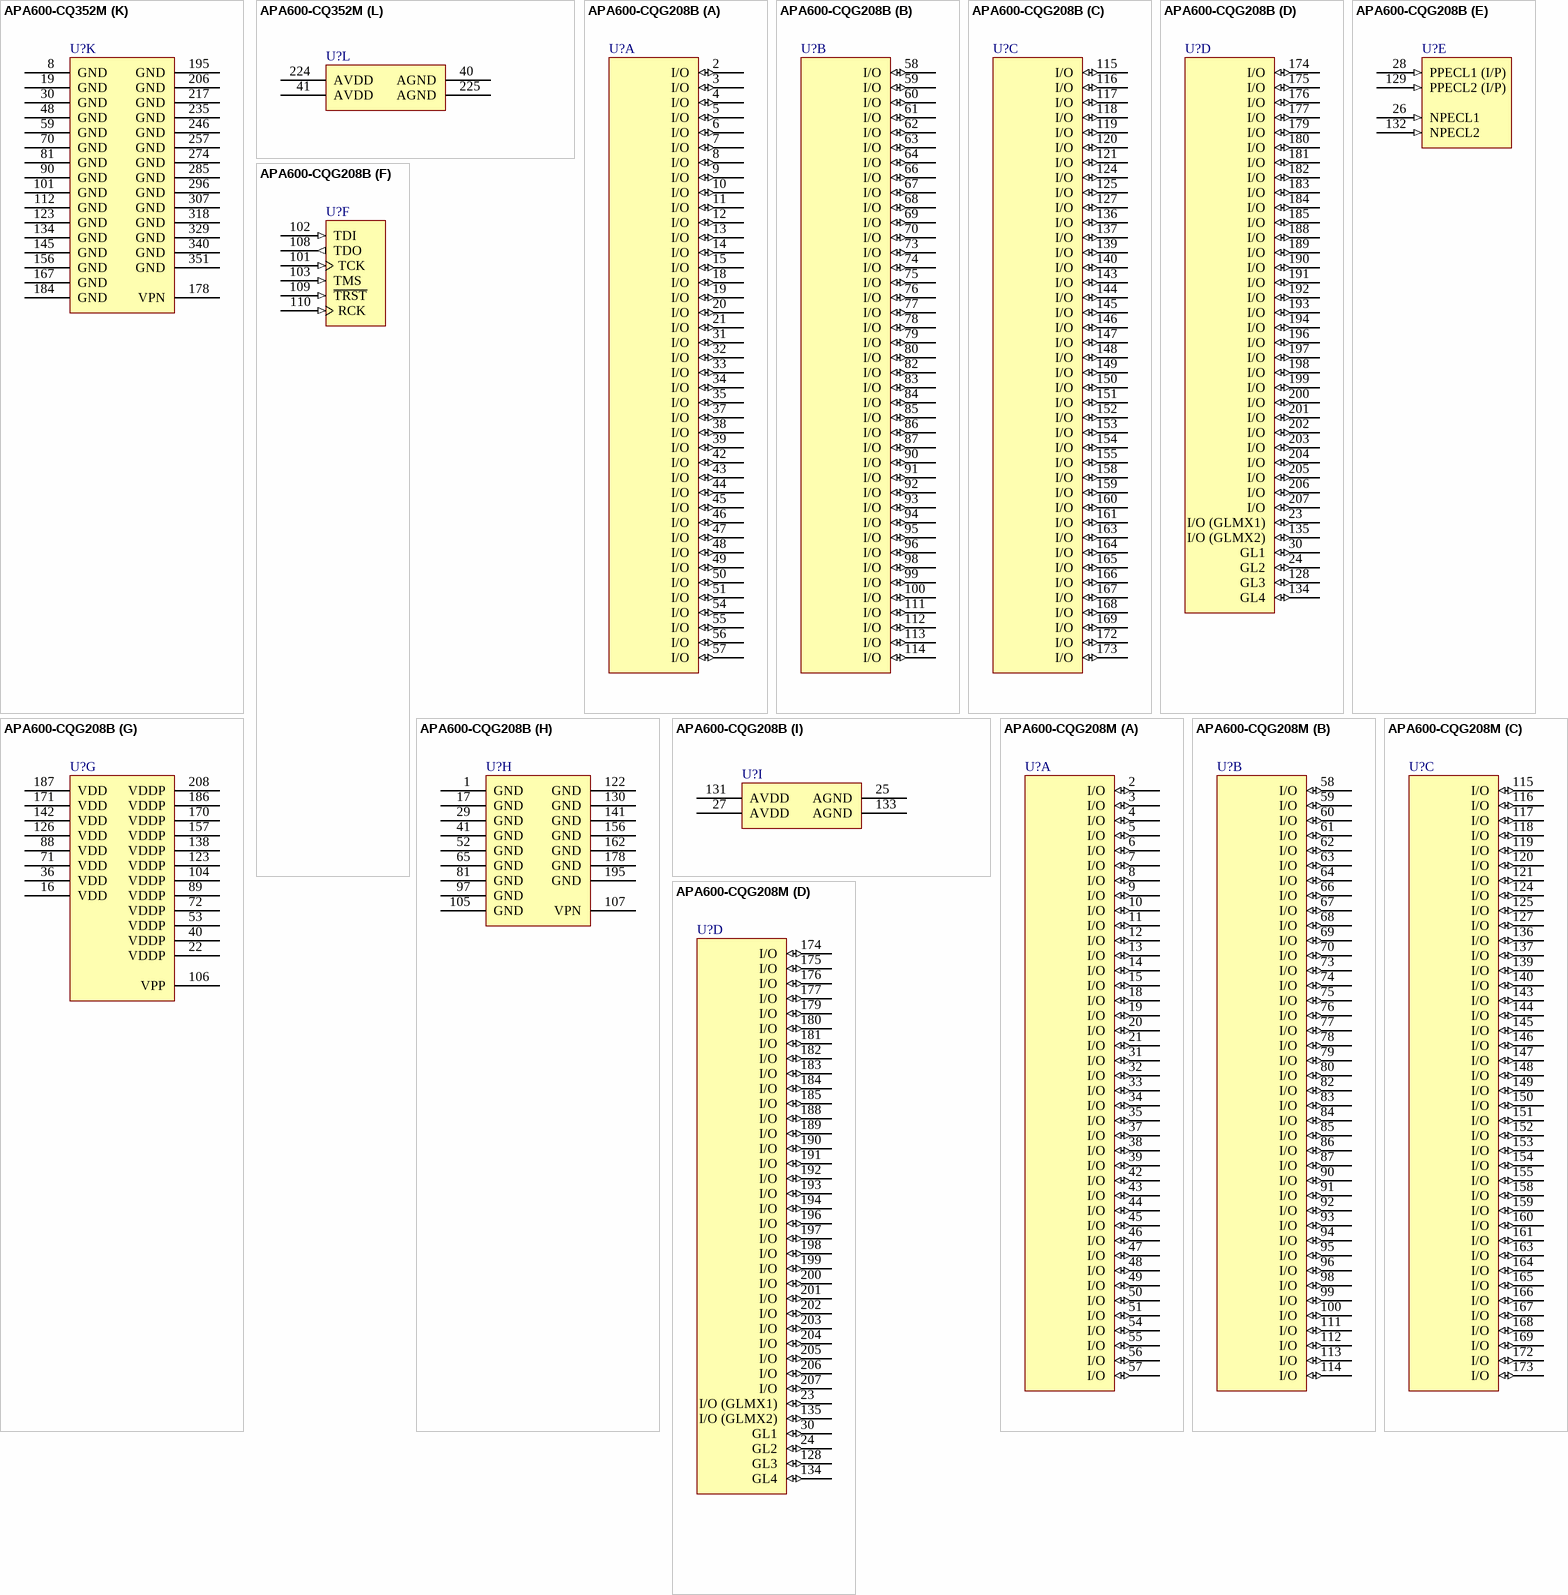
[diagram p91: symbols APA600-CQ352M to APA600-CQG208M]

## APA600-CQ352M
designator U?
ProASICPlus APA600 Flash FPGA, 248 User IOs, 352-Pin CQFP, Speed Grade Standard, Military Grade; Published: 16-Dec-2005; LatestRevisionDate: 26-Feb-2010; LatestRevisionNote: Updated to datasheet version 5.9 Jan-2010.; DatasheetVersion: v5.9, Jan-2010; PackageVersion: ver11.2, Nov-2009; PackageReference: CQ352; Publisher: Altium Limited; PackageDescription: 352-Pin Ceramic Quad Flat Pack (CQFP), Cavity Up without Heat Sink; Code_JEDEC: MO-134-AE; ComponentLink1Description: ProASIC PLUS Datasheet; ComponentLink1URL: http://www.actel.com/documents/ProASICPLUS_DS.pdf; ComponentLink2Description: Package Mechanical Drawings; ComponentLink2URL: http://www.actel.com/documents/PckgMechDrwngs.pdf; ComponentLink3Description: ProASIC PLUS Documents; ComponentLink3URL: http://www.actel.com/products/proasicplus/docs.aspx; ComponentLink4Description: Actel.com Home; ComponentLink4URL: http://www.actel.com/
footprint CQ352_N (CQFP, 352-Leads, Body 48x48mm; Pitch 0.5mm, Gullwing Leadform, IPC Medium Density)
footprint CQ352_L (CQFP, 352-Leads, Body 48x48mm; Pitch 0.5mm, Gullwing Leadform, IPC High Density)
footprint CQ352_M (CQFP, 352-Leads, Body 48x48mm; Pitch 0.5mm, Gullwing Leadform, IPC Low Density)
part A pins: 1 I/O (io), 2 I/O (io), 3 I/O (io), 4 I/O (io), 5 I/O (io), 6 I/O (io), 10 I/O (io), 11 I/O (io), 12 I/O (io), 13 I/O (io), 14 I/O (io), 15 I/O (io), 16 I/O (io), 17 I/O (io), 21 I/O (io), 22 I/O (io), 23 I/O (io), 24 I/O (io), 25 I/O (io), 26 I/O (io), 27 I/O (io), 28 I/O (io), 32 I/O (io), 33 I/O (io), 34 I/O (io), 35 I/O (io), 36 I/O (io), 37 I/O (io), 45 I/O (io), 46 I/O (io), 50 I/O (io), 51 I/O (io), 52 I/O (io), 53 I/O (io), 54 I/O (io), 55 I/O (io), 56 I/O (io), 57 I/O (io), 61 I/O (io), 62 I/O (io)
part B pins: 63 I/O (io), 64 I/O (io), 65 I/O (io), 66 I/O (io), 67 I/O (io), 68 I/O (io), 72 I/O (io), 73 I/O (io), 74 I/O (io), 75 I/O (io), 76 I/O (io), 77 I/O (io), 78 I/O (io), 79 I/O (io), 83 I/O (io), 84 I/O (io), 85 I/O (io), 86 I/O (io), 87 I/O (io), 88 I/O (io), 92 I/O (io), 93 I/O (io), 94 I/O (io), 95 I/O (io), 96 I/O (io), 97 I/O (io), 98 I/O (io), 99 I/O (io), 103 I/O (io), 104 I/O (io), 105 I/O (io), 106 I/O (io), 107 I/O (io), 108 I/O (io), 109 I/O (io), 110 I/O (io), 114 I/O (io), 115 I/O (io), 116 I/O (io), 117 I/O (io)
part C pins: 38 I/O (GLMX1) (io), 39 GL2 (io), 44 GL1 (io), 118 I/O (io), 119 I/O (io), 120 I/O (io), 121 I/O (io), 125 I/O (io), 126 I/O (io), 127 I/O (io), 128 I/O (io), 129 I/O (io), 130 I/O (io), 131 I/O (io), 132 I/O (io), 136 I/O (io), 137 I/O (io), 138 I/O (io), 139 I/O (io), 140 I/O (io), 141 I/O (io), 142 I/O (io), 143 I/O (io), 147 I/O (io), 148 I/O (io), 149 I/O (io), 150 I/O (io), 151 I/O (io), 152 I/O (io), 153 I/O (io), 154 I/O (io), 158 I/O (io), 159 I/O (io), 160 I/O (io), 161 I/O (io), 162 I/O (io), 163 I/O (io), 221 GL3 (io), 226 GL4 (io), 227 I/O (GLMX2) (io)
part D pins: 164 I/O (io), 165 I/O (io), 169 I/O (io), 170 I/O (io), 171 I/O (io), 172 I/O (io), 176 I/O (io), 182 I/O (io), 186 I/O (io), 187 I/O (io), 188 I/O (io), 189 I/O (io), 190 I/O (io), 191 I/O (io), 192 I/O (io), 193 I/O (io), 197 I/O (io), 198 I/O (io), 199 I/O (io), 200 I/O (io), 201 I/O (io), 202 I/O (io), 203 I/O (io), 204 I/O (io), 208 I/O (io), 209 I/O (io), 210 I/O (io), 211 I/O (io), 212 I/O (io), 213 I/O (io), 214 I/O (io), 215 I/O (io), 219 I/O (io), 220 I/O (io), 228 I/O (io), 229 I/O (io), 230 I/O (io), 231 I/O (io), 232 I/O (io), 233 I/O (io)
part E pins: 237 I/O (io), 238 I/O (io), 239 I/O (io), 240 I/O (io), 241 I/O (io), 242 I/O (io), 243 I/O (io), 244 I/O (io), 248 I/O (io), 249 I/O (io), 250 I/O (io), 251 I/O (io), 252 I/O (io), 253 I/O (io), 254 I/O (io), 255 I/O (io), 259 I/O (io), 260 I/O (io), 261 I/O (io), 262 I/O (io), 263 I/O (io), 264 I/O (io), 265 I/O (io), 266 I/O (io), 267 I/O (io), 268 I/O (io), 269 I/O (io), 270 I/O (io), 271 I/O (io), 272 I/O (io), 276 I/O (io), 277 I/O (io), 278 I/O (io), 279 I/O (io), 280 I/O (io), 281 I/O (io), 282 I/O (io), 283 I/O (io), 287 I/O (io), 288 I/O (io)
part F pins: 289 I/O (io), 290 I/O (io), 291 I/O (io), 292 I/O (io), 293 I/O (io), 294 I/O (io), 298 I/O (io), 299 I/O (io), 300 I/O (io), 301 I/O (io), 302 I/O (io), 303 I/O (io), 304 I/O (io), 305 I/O (io), 309 I/O (io), 310 I/O (io), 311 I/O (io), 312 I/O (io), 313 I/O (io), 314 I/O (io), 315 I/O (io), 316 I/O (io), 320 I/O (io), 321 I/O (io), 322 I/O (io), 323 I/O (io), 324 I/O (io), 325 I/O (io), 326 I/O (io), 327 I/O (io), 331 I/O (io), 332 I/O (io), 333 I/O (io), 334 I/O (io), 335 I/O (io), 336 I/O (io), 337 I/O (io), 338 I/O (io), 342 I/O (io), 343 I/O (io)
part G pins: 344 I/O (io), 345 I/O (io), 346 I/O (io), 347 I/O (io), 348 I/O (io), 349 I/O (io)
part H pins: 42 NPECL1 (in), 43 PPECL1 (I/P) (in), 222 PPECL2 (I/P) (in), 223 NPECL2 (in)
part I pins: 173 TCK (in), 174 TDI (in), 175 TMS (in), 179 TDO (out), 180 ~{TRST} (in), 181 RCK (in)
part J pins: 7 VDD (power), 9 VDDP (power), 18 VDD (power), 20 VDDP (power), 29 VDD (power), 31 VDDP (power), 47 VDD (power), 49 VDDP (power), 58 VDD (power), 60 VDDP (power), 69 VDD (power), 71 VDDP (power), 80 VDD (power), 82 VDDP (power), 89 VDDP (power), 91 VDD (power), 100 VDDP (power), 102 VDD (power), 111 VDDP (power), 113 VDD (power), 122 VDDP (power), 124 VDD (power), 133 VDDP (power), 135 VDD (power), 144 VDDP (power), 146 VDD (power), 155 VDDP (power), 157 VDD (power), 166 VDDP (power), 168 VDD (power), 177 VPP (power), 183 VDDP (power), 185 VDD (power), 194 VDDP (power), 196 VDD (power), 205 VDDP (power), 207 VDD (power), 216 VDDP (power), 218 VDD (power), 234 VDDP (power), 236 VDD (power), 245 VDDP (power), 247 VDD (power), 256 VDDP (power), 258 VDD (power), 273 VDD (power), 275 VDDP (power), 284 VDD (power), 286 VDDP (power), 295 VDD (power), 297 VDDP (power), 306 VDD (power), 308 VDDP (power), 317 VDD (power), 319 VDDP (power), 328 VDD (power), 330 VDDP (power), 339 VDD (power), 341 VDDP (power), 350 VDD (power), 352 VDDP (power)
part K pins: 8 GND (power), 19 GND (power), 30 GND (power), 48 GND (power), 59 GND (power), 70 GND (power), 81 GND (power), 90 GND (power), 101 GND (power), 112 GND (power), 123 GND (power), 134 GND (power), 145 GND (power), 156 GND (power), 167 GND (power), 178 VPN (power), 184 GND (power), 195 GND (power), 206 GND (power), 217 GND (power), 235 GND (power), 246 GND (power), 257 GND (power), 274 GND (power), 285 GND (power), 296 GND (power), 307 GND (power), 318 GND (power), 329 GND (power), 340 GND (power), 351 GND (power)
part L pins: 40 AGND (power), 41 AVDD (power), 224 AVDD (power), 225 AGND (power)

## APA600-CQG208B
designator U?
ProASICPlus APA600 Flash FPGA, 158 User IOs, 208-Pin CQFP, Speed Grade Standard, Mil-Std 883 Class B, Pb-Free; Published: 2-Mar-2006; LatestRevisionDate: 26-Feb-2010; LatestRevisionNote: Updated to datasheet version 5.9 Jan-2010.; DatasheetVersion: v5.9, Jan-2010; PackageVersion: ver11.2, Nov-2009; PackageReference: CQ208; Publisher: Altium Limited; PackageDescription: 208-Pin Ceramic Quad Flat Pack (CQFP); ComponentLink1Description: ProASIC PLUS Datasheet; ComponentLink1URL: http://www.actel.com/documents/ProASICPLUS_DS.pdf; ComponentLink2Description: Package Mechanical Drawings; ComponentLink2URL: http://www.actel.com/documents/PckgMechDrwngs.pdf; ComponentLink3Description: ProASIC PLUS Documents; ComponentLink3URL: http://www.actel.com/products/proasicplus/docs.aspx; ComponentLink4Description: Actel.com Home; ComponentLink4URL: http://www.actel.com/
footprint CQ208_N (CQFP, 208-Leads, Body 29x29mm; Pitch 0.5mm, Gullwing Leadform, IPC Medium Density)
footprint CQ208_L (CQFP, 208-Leads, Body 29x29mm; Pitch 0.5mm, Gullwing Leadform, IPC High Density)
footprint CQ208_M (CQFP, 208-Leads, Body 29x29mm; Pitch 0.5mm, Gullwing Leadform, IPC Low Density)
part A pins: 2 I/O (io), 3 I/O (io), 4 I/O (io), 5 I/O (io), 6 I/O (io), 7 I/O (io), 8 I/O (io), 9 I/O (io), 10 I/O (io), 11 I/O (io), 12 I/O (io), 13 I/O (io), 14 I/O (io), 15 I/O (io), 18 I/O (io), 19 I/O (io), 20 I/O (io), 21 I/O (io), 31 I/O (io), 32 I/O (io), 33 I/O (io), 34 I/O (io), 35 I/O (io), 37 I/O (io), 38 I/O (io), 39 I/O (io), 42 I/O (io), 43 I/O (io), 44 I/O (io), 45 I/O (io), 46 I/O (io), 47 I/O (io), 48 I/O (io), 49 I/O (io), 50 I/O (io), 51 I/O (io), 54 I/O (io), 55 I/O (io), 56 I/O (io), 57 I/O (io)
part B pins: 58 I/O (io), 59 I/O (io), 60 I/O (io), 61 I/O (io), 62 I/O (io), 63 I/O (io), 64 I/O (io), 66 I/O (io), 67 I/O (io), 68 I/O (io), 69 I/O (io), 70 I/O (io), 73 I/O (io), 74 I/O (io), 75 I/O (io), 76 I/O (io), 77 I/O (io), 78 I/O (io), 79 I/O (io), 80 I/O (io), 82 I/O (io), 83 I/O (io), 84 I/O (io), 85 I/O (io), 86 I/O (io), 87 I/O (io), 90 I/O (io), 91 I/O (io), 92 I/O (io), 93 I/O (io), 94 I/O (io), 95 I/O (io), 96 I/O (io), 98 I/O (io), 99 I/O (io), 100 I/O (io), 111 I/O (io), 112 I/O (io), 113 I/O (io), 114 I/O (io)
part C pins: 115 I/O (io), 116 I/O (io), 117 I/O (io), 118 I/O (io), 119 I/O (io), 120 I/O (io), 121 I/O (io), 124 I/O (io), 125 I/O (io), 127 I/O (io), 136 I/O (io), 137 I/O (io), 139 I/O (io), 140 I/O (io), 143 I/O (io), 144 I/O (io), 145 I/O (io), 146 I/O (io), 147 I/O (io), 148 I/O (io), 149 I/O (io), 150 I/O (io), 151 I/O (io), 152 I/O (io), 153 I/O (io), 154 I/O (io), 155 I/O (io), 158 I/O (io), 159 I/O (io), 160 I/O (io), 161 I/O (io), 163 I/O (io), 164 I/O (io), 165 I/O (io), 166 I/O (io), 167 I/O (io), 168 I/O (io), 169 I/O (io), 172 I/O (io), 173 I/O (io)
part D pins: 23 I/O (GLMX1) (io), 24 GL2 (io), 30 GL1 (io), 128 GL3 (io), 134 GL4 (io), 135 I/O (GLMX2) (io), 174 I/O (io), 175 I/O (io), 176 I/O (io), 177 I/O (io), 179 I/O (io), 180 I/O (io), 181 I/O (io), 182 I/O (io), 183 I/O (io), 184 I/O (io), 185 I/O (io), 188 I/O (io), 189 I/O (io), 190 I/O (io), 191 I/O (io), 192 I/O (io), 193 I/O (io), 194 I/O (io), 196 I/O (io), 197 I/O (io), 198 I/O (io), 199 I/O (io), 200 I/O (io), 201 I/O (io), 202 I/O (io), 203 I/O (io), 204 I/O (io), 205 I/O (io), 206 I/O (io), 207 I/O (io)
part E pins: 26 NPECL1 (in), 28 PPECL1 (I/P) (in), 129 PPECL2 (I/P) (in), 132 NPECL2 (in)
part F pins: 101 TCK (in), 102 TDI (in), 103 TMS (in), 108 TDO (out), 109 ~{TRST} (in), 110 RCK (in)
part G pins: 16 VDD (power), 22 VDDP (power), 36 VDD (power), 40 VDDP (power), 53 VDDP (power), 71 VDD (power), 72 VDDP (power), 88 VDD (power), 89 VDDP (power), 104 VDDP (power), 106 VPP (power), 123 VDDP (power), 126 VDD (power), 138 VDDP (power), 142 VDD (power), 157 VDDP (power), 170 VDDP (power), 171 VDD (power), 186 VDDP (power), 187 VDD (power), 208 VDDP (power)
part H pins: 1 GND (power), 17 GND (power), 29 GND (power), 41 GND (power), 52 GND (power), 65 GND (power), 81 GND (power), 97 GND (power), 105 GND (power), 107 VPN (power), 122 GND (power), 130 GND (power), 141 GND (power), 156 GND (power), 162 GND (power), 178 GND (power), 195 GND (power)
part I pins: 25 AGND (power), 27 AVDD (power), 131 AVDD (power), 133 AGND (power)

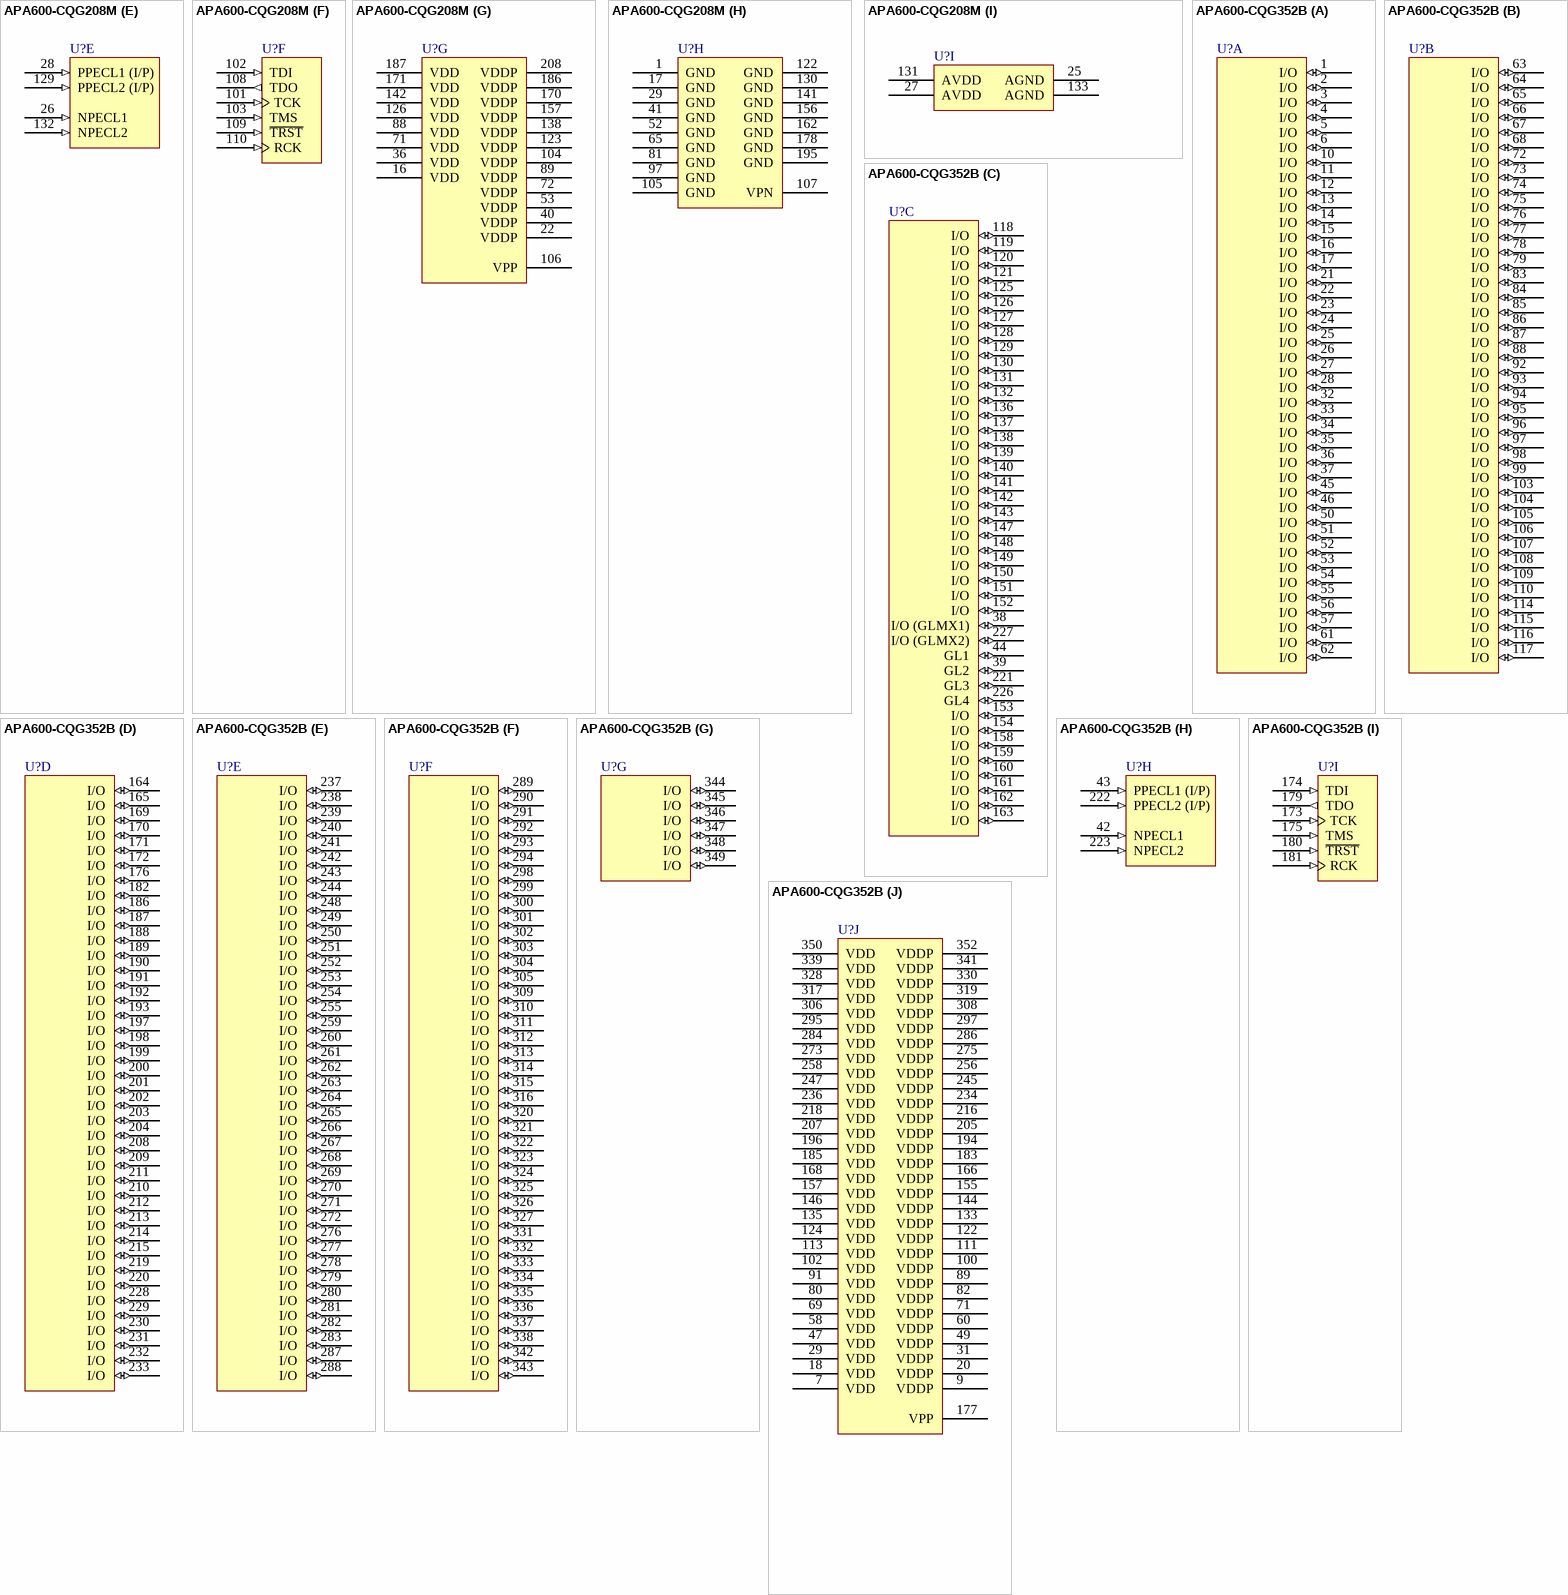
[diagram p92: symbols APA600-CQG208M to APA600-CQG352B]

## APA600-CQG208M
designator U?
ProASICPlus APA600 Flash FPGA, 158 User IOs, 208-Pin CQFP, Speed Grade Standard, Military Grade, Pb-Free; Published: 16-Dec-2005; LatestRevisionDate: 26-Feb-2010; LatestRevisionNote: Updated to datasheet version 5.9 Jan-2010.; DatasheetVersion: v5.9, Jan-2010; PackageVersion: ver11.2, Nov-2009; PackageReference: CQ208; Publisher: Altium Limited; PackageDescription: 208-Pin Ceramic Quad Flat Pack (CQFP); ComponentLink1Description: ProASIC PLUS Datasheet; ComponentLink1URL: http://www.actel.com/documents/ProASICPLUS_DS.pdf; ComponentLink2Description: Package Mechanical Drawings; ComponentLink2URL: http://www.actel.com/documents/PckgMechDrwngs.pdf; ComponentLink3Description: ProASIC PLUS Documents; ComponentLink3URL: http://www.actel.com/products/proasicplus/docs.aspx; ComponentLink4Description: Actel.com Home; ComponentLink4URL: http://www.actel.com/
footprint CQ208_N (CQFP, 208-Leads, Body 29x29mm; Pitch 0.5mm, Gullwing Leadform, IPC Medium Density)
footprint CQ208_L (CQFP, 208-Leads, Body 29x29mm; Pitch 0.5mm, Gullwing Leadform, IPC High Density)
footprint CQ208_M (CQFP, 208-Leads, Body 29x29mm; Pitch 0.5mm, Gullwing Leadform, IPC Low Density)
part A pins: 2 I/O (io), 3 I/O (io), 4 I/O (io), 5 I/O (io), 6 I/O (io), 7 I/O (io), 8 I/O (io), 9 I/O (io), 10 I/O (io), 11 I/O (io), 12 I/O (io), 13 I/O (io), 14 I/O (io), 15 I/O (io), 18 I/O (io), 19 I/O (io), 20 I/O (io), 21 I/O (io), 31 I/O (io), 32 I/O (io), 33 I/O (io), 34 I/O (io), 35 I/O (io), 37 I/O (io), 38 I/O (io), 39 I/O (io), 42 I/O (io), 43 I/O (io), 44 I/O (io), 45 I/O (io), 46 I/O (io), 47 I/O (io), 48 I/O (io), 49 I/O (io), 50 I/O (io), 51 I/O (io), 54 I/O (io), 55 I/O (io), 56 I/O (io), 57 I/O (io)
part B pins: 58 I/O (io), 59 I/O (io), 60 I/O (io), 61 I/O (io), 62 I/O (io), 63 I/O (io), 64 I/O (io), 66 I/O (io), 67 I/O (io), 68 I/O (io), 69 I/O (io), 70 I/O (io), 73 I/O (io), 74 I/O (io), 75 I/O (io), 76 I/O (io), 77 I/O (io), 78 I/O (io), 79 I/O (io), 80 I/O (io), 82 I/O (io), 83 I/O (io), 84 I/O (io), 85 I/O (io), 86 I/O (io), 87 I/O (io), 90 I/O (io), 91 I/O (io), 92 I/O (io), 93 I/O (io), 94 I/O (io), 95 I/O (io), 96 I/O (io), 98 I/O (io), 99 I/O (io), 100 I/O (io), 111 I/O (io), 112 I/O (io), 113 I/O (io), 114 I/O (io)
part C pins: 115 I/O (io), 116 I/O (io), 117 I/O (io), 118 I/O (io), 119 I/O (io), 120 I/O (io), 121 I/O (io), 124 I/O (io), 125 I/O (io), 127 I/O (io), 136 I/O (io), 137 I/O (io), 139 I/O (io), 140 I/O (io), 143 I/O (io), 144 I/O (io), 145 I/O (io), 146 I/O (io), 147 I/O (io), 148 I/O (io), 149 I/O (io), 150 I/O (io), 151 I/O (io), 152 I/O (io), 153 I/O (io), 154 I/O (io), 155 I/O (io), 158 I/O (io), 159 I/O (io), 160 I/O (io), 161 I/O (io), 163 I/O (io), 164 I/O (io), 165 I/O (io), 166 I/O (io), 167 I/O (io), 168 I/O (io), 169 I/O (io), 172 I/O (io), 173 I/O (io)
part D pins: 23 I/O (GLMX1) (io), 24 GL2 (io), 30 GL1 (io), 128 GL3 (io), 134 GL4 (io), 135 I/O (GLMX2) (io), 174 I/O (io), 175 I/O (io), 176 I/O (io), 177 I/O (io), 179 I/O (io), 180 I/O (io), 181 I/O (io), 182 I/O (io), 183 I/O (io), 184 I/O (io), 185 I/O (io), 188 I/O (io), 189 I/O (io), 190 I/O (io), 191 I/O (io), 192 I/O (io), 193 I/O (io), 194 I/O (io), 196 I/O (io), 197 I/O (io), 198 I/O (io), 199 I/O (io), 200 I/O (io), 201 I/O (io), 202 I/O (io), 203 I/O (io), 204 I/O (io), 205 I/O (io), 206 I/O (io), 207 I/O (io)
part E pins: 26 NPECL1 (in), 28 PPECL1 (I/P) (in), 129 PPECL2 (I/P) (in), 132 NPECL2 (in)
part F pins: 101 TCK (in), 102 TDI (in), 103 TMS (in), 108 TDO (out), 109 ~{TRST} (in), 110 RCK (in)
part G pins: 16 VDD (power), 22 VDDP (power), 36 VDD (power), 40 VDDP (power), 53 VDDP (power), 71 VDD (power), 72 VDDP (power), 88 VDD (power), 89 VDDP (power), 104 VDDP (power), 106 VPP (power), 123 VDDP (power), 126 VDD (power), 138 VDDP (power), 142 VDD (power), 157 VDDP (power), 170 VDDP (power), 171 VDD (power), 186 VDDP (power), 187 VDD (power), 208 VDDP (power)
part H pins: 1 GND (power), 17 GND (power), 29 GND (power), 41 GND (power), 52 GND (power), 65 GND (power), 81 GND (power), 97 GND (power), 105 GND (power), 107 VPN (power), 122 GND (power), 130 GND (power), 141 GND (power), 156 GND (power), 162 GND (power), 178 GND (power), 195 GND (power)
part I pins: 25 AGND (power), 27 AVDD (power), 131 AVDD (power), 133 AGND (power)

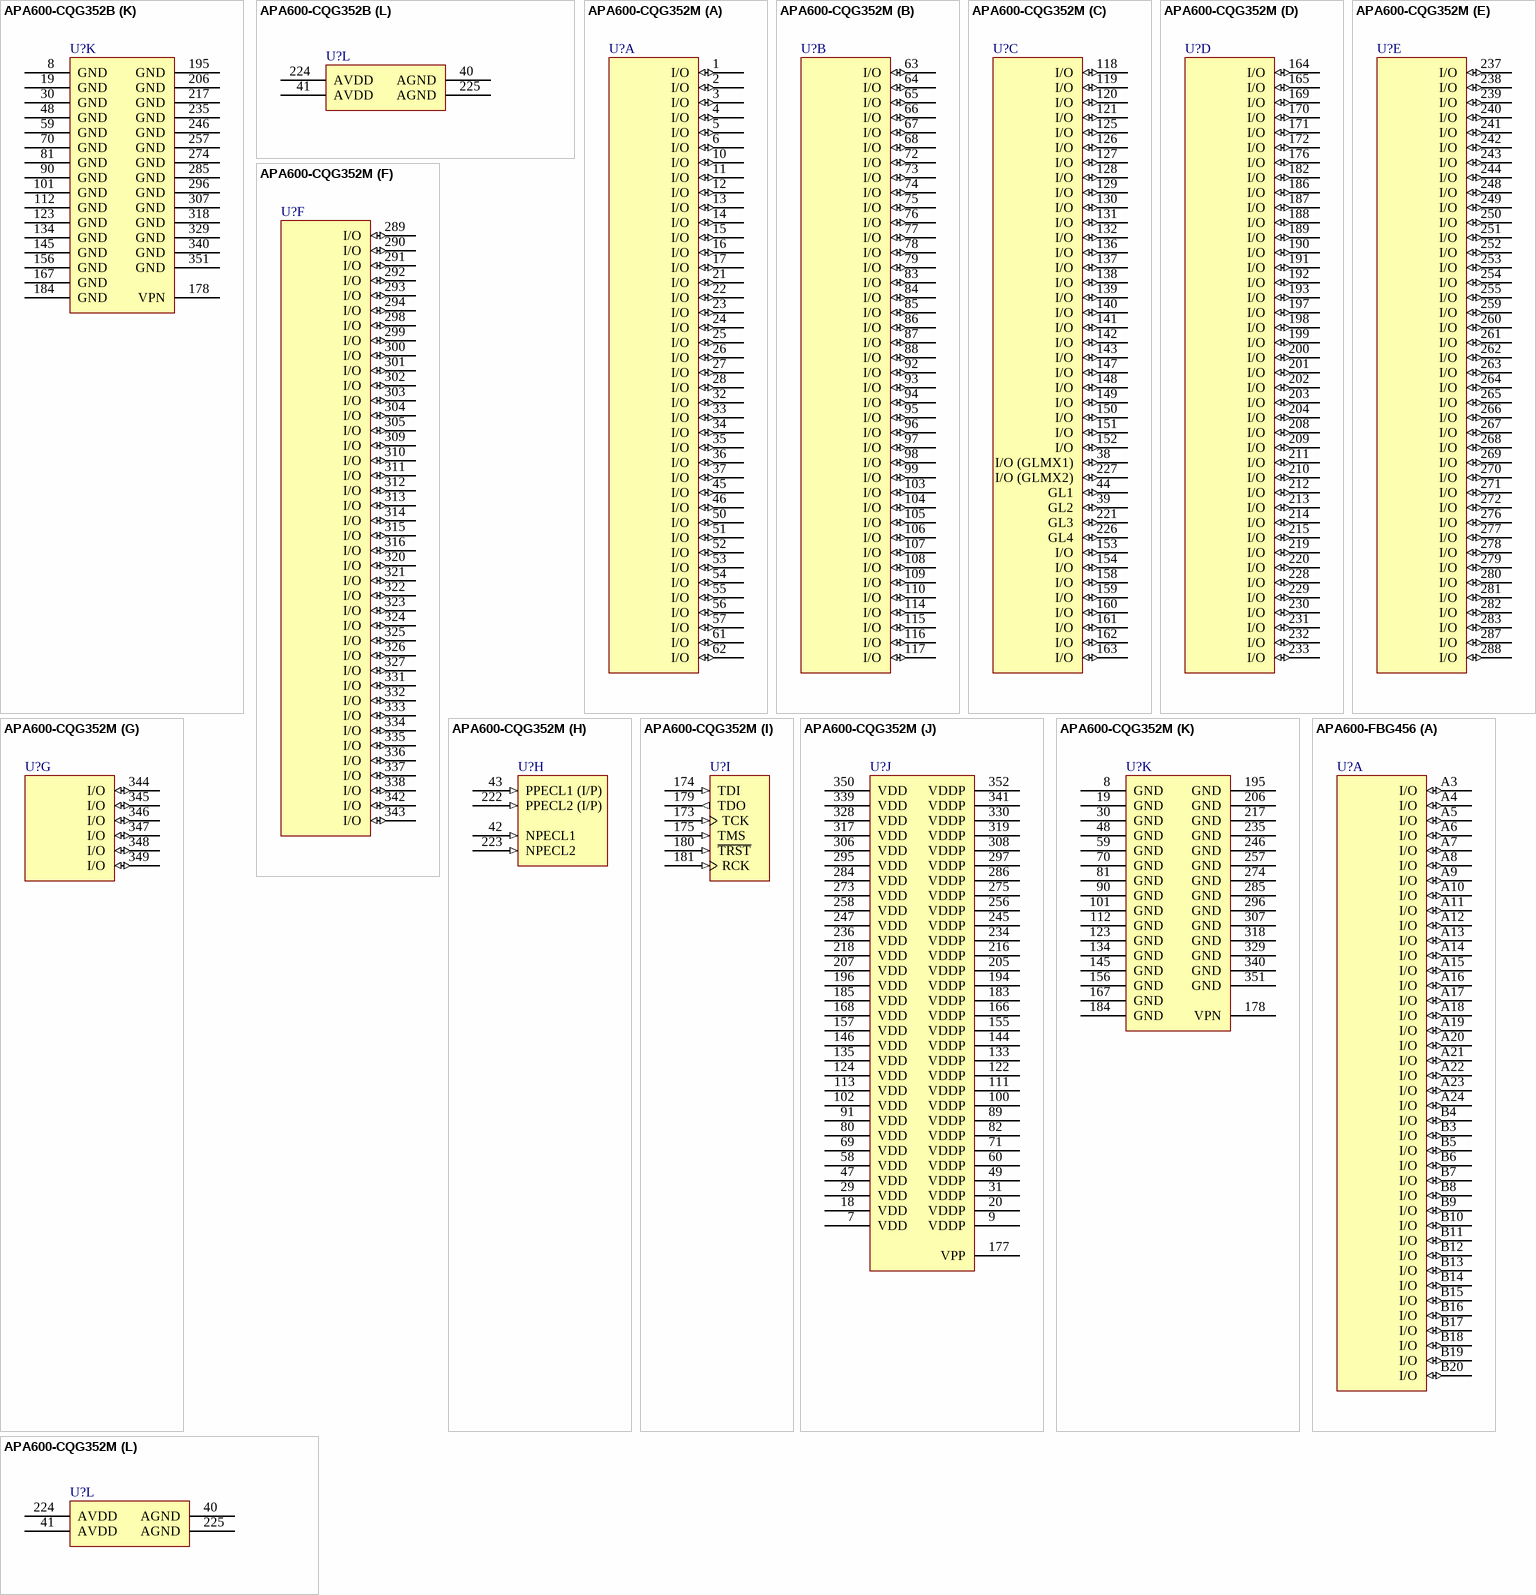
[diagram p93: symbols APA600-CQG352B to APA600-FBG456]

## APA600-CQG352B
designator U?
ProASICPlus APA600 Flash FPGA, 248 User IOs, 352-Pin CQFP, Speed Grade Standard, Mil-Std 883 Class B, Pb-Free; Published: 2-Mar-2006; LatestRevisionDate: 26-Feb-2010; LatestRevisionNote: Updated to datasheet version 5.9 Jan-2010.; DatasheetVersion: v5.9, Jan-2010; PackageVersion: ver11.2, Nov-2009; PackageReference: CQ352; Publisher: Altium Limited; PackageDescription: 352-Pin Ceramic Quad Flat Pack (CQFP), Cavity Up without Heat Sink; Code_JEDEC: MO-134-AE; ComponentLink1Description: ProASIC PLUS Datasheet; ComponentLink1URL: http://www.actel.com/documents/ProASICPLUS_DS.pdf; ComponentLink2Description: Package Mechanical Drawings; ComponentLink2URL: http://www.actel.com/documents/PckgMechDrwngs.pdf; ComponentLink3Description: ProASIC PLUS Documents; ComponentLink3URL: http://www.actel.com/products/proasicplus/docs.aspx; ComponentLink4Description: Actel.com Home; ComponentLink4URL: http://www.actel.com/
footprint CQ352_N (CQFP, 352-Leads, Body 48x48mm; Pitch 0.5mm, Gullwing Leadform, IPC Medium Density)
footprint CQ352_L (CQFP, 352-Leads, Body 48x48mm; Pitch 0.5mm, Gullwing Leadform, IPC High Density)
footprint CQ352_M (CQFP, 352-Leads, Body 48x48mm; Pitch 0.5mm, Gullwing Leadform, IPC Low Density)
part A pins: 1 I/O (io), 2 I/O (io), 3 I/O (io), 4 I/O (io), 5 I/O (io), 6 I/O (io), 10 I/O (io), 11 I/O (io), 12 I/O (io), 13 I/O (io), 14 I/O (io), 15 I/O (io), 16 I/O (io), 17 I/O (io), 21 I/O (io), 22 I/O (io), 23 I/O (io), 24 I/O (io), 25 I/O (io), 26 I/O (io), 27 I/O (io), 28 I/O (io), 32 I/O (io), 33 I/O (io), 34 I/O (io), 35 I/O (io), 36 I/O (io), 37 I/O (io), 45 I/O (io), 46 I/O (io), 50 I/O (io), 51 I/O (io), 52 I/O (io), 53 I/O (io), 54 I/O (io), 55 I/O (io), 56 I/O (io), 57 I/O (io), 61 I/O (io), 62 I/O (io)
part B pins: 63 I/O (io), 64 I/O (io), 65 I/O (io), 66 I/O (io), 67 I/O (io), 68 I/O (io), 72 I/O (io), 73 I/O (io), 74 I/O (io), 75 I/O (io), 76 I/O (io), 77 I/O (io), 78 I/O (io), 79 I/O (io), 83 I/O (io), 84 I/O (io), 85 I/O (io), 86 I/O (io), 87 I/O (io), 88 I/O (io), 92 I/O (io), 93 I/O (io), 94 I/O (io), 95 I/O (io), 96 I/O (io), 97 I/O (io), 98 I/O (io), 99 I/O (io), 103 I/O (io), 104 I/O (io), 105 I/O (io), 106 I/O (io), 107 I/O (io), 108 I/O (io), 109 I/O (io), 110 I/O (io), 114 I/O (io), 115 I/O (io), 116 I/O (io), 117 I/O (io)
part C pins: 38 I/O (GLMX1) (io), 39 GL2 (io), 44 GL1 (io), 118 I/O (io), 119 I/O (io), 120 I/O (io), 121 I/O (io), 125 I/O (io), 126 I/O (io), 127 I/O (io), 128 I/O (io), 129 I/O (io), 130 I/O (io), 131 I/O (io), 132 I/O (io), 136 I/O (io), 137 I/O (io), 138 I/O (io), 139 I/O (io), 140 I/O (io), 141 I/O (io), 142 I/O (io), 143 I/O (io), 147 I/O (io), 148 I/O (io), 149 I/O (io), 150 I/O (io), 151 I/O (io), 152 I/O (io), 153 I/O (io), 154 I/O (io), 158 I/O (io), 159 I/O (io), 160 I/O (io), 161 I/O (io), 162 I/O (io), 163 I/O (io), 221 GL3 (io), 226 GL4 (io), 227 I/O (GLMX2) (io)
part D pins: 164 I/O (io), 165 I/O (io), 169 I/O (io), 170 I/O (io), 171 I/O (io), 172 I/O (io), 176 I/O (io), 182 I/O (io), 186 I/O (io), 187 I/O (io), 188 I/O (io), 189 I/O (io), 190 I/O (io), 191 I/O (io), 192 I/O (io), 193 I/O (io), 197 I/O (io), 198 I/O (io), 199 I/O (io), 200 I/O (io), 201 I/O (io), 202 I/O (io), 203 I/O (io), 204 I/O (io), 208 I/O (io), 209 I/O (io), 210 I/O (io), 211 I/O (io), 212 I/O (io), 213 I/O (io), 214 I/O (io), 215 I/O (io), 219 I/O (io), 220 I/O (io), 228 I/O (io), 229 I/O (io), 230 I/O (io), 231 I/O (io), 232 I/O (io), 233 I/O (io)
part E pins: 237 I/O (io), 238 I/O (io), 239 I/O (io), 240 I/O (io), 241 I/O (io), 242 I/O (io), 243 I/O (io), 244 I/O (io), 248 I/O (io), 249 I/O (io), 250 I/O (io), 251 I/O (io), 252 I/O (io), 253 I/O (io), 254 I/O (io), 255 I/O (io), 259 I/O (io), 260 I/O (io), 261 I/O (io), 262 I/O (io), 263 I/O (io), 264 I/O (io), 265 I/O (io), 266 I/O (io), 267 I/O (io), 268 I/O (io), 269 I/O (io), 270 I/O (io), 271 I/O (io), 272 I/O (io), 276 I/O (io), 277 I/O (io), 278 I/O (io), 279 I/O (io), 280 I/O (io), 281 I/O (io), 282 I/O (io), 283 I/O (io), 287 I/O (io), 288 I/O (io)
part F pins: 289 I/O (io), 290 I/O (io), 291 I/O (io), 292 I/O (io), 293 I/O (io), 294 I/O (io), 298 I/O (io), 299 I/O (io), 300 I/O (io), 301 I/O (io), 302 I/O (io), 303 I/O (io), 304 I/O (io), 305 I/O (io), 309 I/O (io), 310 I/O (io), 311 I/O (io), 312 I/O (io), 313 I/O (io), 314 I/O (io), 315 I/O (io), 316 I/O (io), 320 I/O (io), 321 I/O (io), 322 I/O (io), 323 I/O (io), 324 I/O (io), 325 I/O (io), 326 I/O (io), 327 I/O (io), 331 I/O (io), 332 I/O (io), 333 I/O (io), 334 I/O (io), 335 I/O (io), 336 I/O (io), 337 I/O (io), 338 I/O (io), 342 I/O (io), 343 I/O (io)
part G pins: 344 I/O (io), 345 I/O (io), 346 I/O (io), 347 I/O (io), 348 I/O (io), 349 I/O (io)
part H pins: 42 NPECL1 (in), 43 PPECL1 (I/P) (in), 222 PPECL2 (I/P) (in), 223 NPECL2 (in)
part I pins: 173 TCK (in), 174 TDI (in), 175 TMS (in), 179 TDO (out), 180 ~{TRST} (in), 181 RCK (in)
part J pins: 7 VDD (power), 9 VDDP (power), 18 VDD (power), 20 VDDP (power), 29 VDD (power), 31 VDDP (power), 47 VDD (power), 49 VDDP (power), 58 VDD (power), 60 VDDP (power), 69 VDD (power), 71 VDDP (power), 80 VDD (power), 82 VDDP (power), 89 VDDP (power), 91 VDD (power), 100 VDDP (power), 102 VDD (power), 111 VDDP (power), 113 VDD (power), 122 VDDP (power), 124 VDD (power), 133 VDDP (power), 135 VDD (power), 144 VDDP (power), 146 VDD (power), 155 VDDP (power), 157 VDD (power), 166 VDDP (power), 168 VDD (power), 177 VPP (power), 183 VDDP (power), 185 VDD (power), 194 VDDP (power), 196 VDD (power), 205 VDDP (power), 207 VDD (power), 216 VDDP (power), 218 VDD (power), 234 VDDP (power), 236 VDD (power), 245 VDDP (power), 247 VDD (power), 256 VDDP (power), 258 VDD (power), 273 VDD (power), 275 VDDP (power), 284 VDD (power), 286 VDDP (power), 295 VDD (power), 297 VDDP (power), 306 VDD (power), 308 VDDP (power), 317 VDD (power), 319 VDDP (power), 328 VDD (power), 330 VDDP (power), 339 VDD (power), 341 VDDP (power), 350 VDD (power), 352 VDDP (power)
part K pins: 8 GND (power), 19 GND (power), 30 GND (power), 48 GND (power), 59 GND (power), 70 GND (power), 81 GND (power), 90 GND (power), 101 GND (power), 112 GND (power), 123 GND (power), 134 GND (power), 145 GND (power), 156 GND (power), 167 GND (power), 178 VPN (power), 184 GND (power), 195 GND (power), 206 GND (power), 217 GND (power), 235 GND (power), 246 GND (power), 257 GND (power), 274 GND (power), 285 GND (power), 296 GND (power), 307 GND (power), 318 GND (power), 329 GND (power), 340 GND (power), 351 GND (power)
part L pins: 40 AGND (power), 41 AVDD (power), 224 AVDD (power), 225 AGND (power)